# Altium integrated library Actel MX.IntLib: 334 symbols (part 11 of 20)
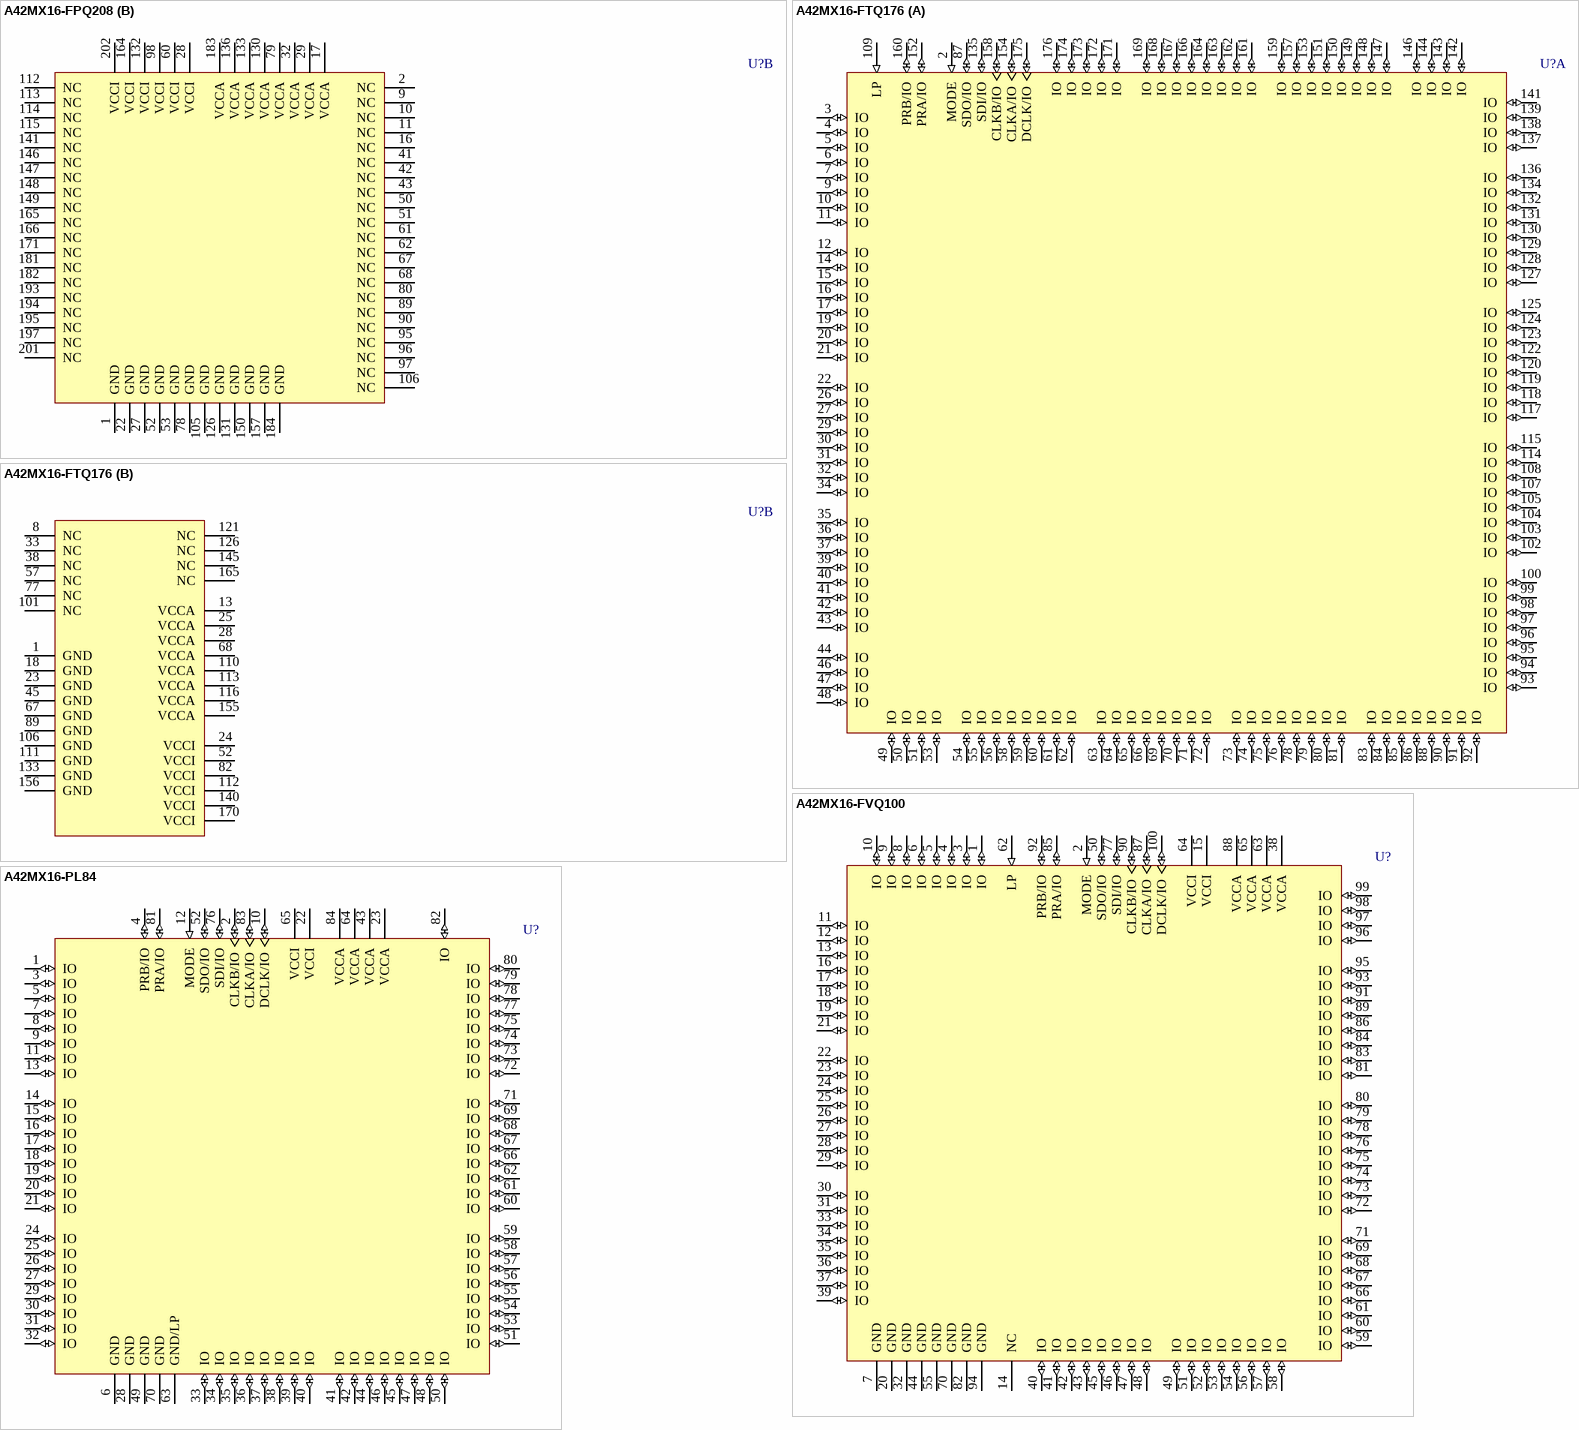
[diagram p142: symbols A42MX16-FPQ208 to A42MX16-PL84]

## A42MX16-FTQ176
designator U?
A42MX16 FPGA, 140 User IOs, 176-Pin TQFP, Speed Grade F, Commercial Grade; DatasheetVersion: v6.1, Apr-2009; PackageVersion: ver11.2, Nov-2009; PackageReference: TQ176; PackageDescription: 176-Pin Plastic Quad Flat Pack (TQ176); Code_JEDEC: MS-026-BCA; ComponentLink1Description: Manufacturer URL; ComponentLink1URL: http://www.actel.com/; ComponentLink2Description: MX Datasheet; ComponentLink2URL: http://www.actel.com/documents/MX_DS.pdf; ComponentLink3Description: Package Mechanical Drawings; ComponentLink3URL: http://www.actel.com/documents/PckgMechDrwngs.pdf; ComponentLink4Description: MX Documents; ComponentLink4URL: http://www.actel.com/products/mx/docs.aspx
footprint TQ176_N (Thin QFP, 176-Leads, Body 24x24mm, Pitch 0.5mm, IPC Medium Density)
footprint TQ176_L (Thin QFP, 176-Leads, Body 24x24mm, Pitch 0.5mm, IPC High Density)
footprint TQ176_M (Thin QFP, 176-Leads, Body 24x24mm, Pitch 0.5mm, IPC Low Density)
part A pins: 2 MODE (in), 3 IO (io), 4 IO (io), 5 IO (io), 6 IO (io), 7 IO (io), 9 IO (io), 10 IO (io), 11 IO (io), 12 IO (io), 14 IO (io), 15 IO (io), 16 IO (io), 17 IO (io), 19 IO (io), 20 IO (io), 21 IO (io), 22 IO (io), 26 IO (io), 27 IO (io), 29 IO (io), 30 IO (io), 31 IO (io), 32 IO (io), 34 IO (io), 35 IO (io), 36 IO (io), 37 IO (io), 39 IO (io), 40 IO (io), 41 IO (io), 42 IO (io), 43 IO (io), 44 IO (io), 46 IO (io), 47 IO (io), 48 IO (io), 49 IO (io), 50 IO (io), 51 IO (io), 53 IO (io), 54 IO (io), 55 IO (io), 56 IO (io), 58 IO (io), 59 IO (io), 60 IO (io), 61 IO (io), 62 IO (io), 63 IO (io), 64 IO (io), 65 IO (io), 66 IO (io), 69 IO (io), 70 IO (io), 71 IO (io), 72 IO (io), 73 IO (io), 74 IO (io), 75 IO (io), 76 IO (io), 78 IO (io), 79 IO (io), 80 IO (io), 81 IO (io), 83 IO (io), 84 IO (io), 85 IO (io), 86 IO (io), 87 SDO/IO (io), 88 IO (io), 90 IO (io), 91 IO (io), 92 IO (io), 93 IO (io), 94 IO (io), 95 IO (io), 96 IO (io), 97 IO (io), 98 IO (io), 99 IO (io), 100 IO (io), 102 IO (io), 103 IO (io), 104 IO (io), 105 IO (io), 107 IO (io), 108 IO (io), 109 LP (in), 114 IO (io), 115 IO (io), 117 IO (io), 118 IO (io), 119 IO (io), 120 IO (io), 122 IO (io), 123 IO (io), 124 IO (io), 125 IO (io), 127 IO (io), 128 IO (io), 129 IO (io), 130 IO (io), 131 IO (io), 132 IO (io), 134 IO (io), 135 SDI/IO (io), 136 IO (io), 137 IO (io), 138 IO (io), 139 IO (io), 141 IO (io), 142 IO (io), 143 IO (io), 144 IO (io), 146 IO (io), 147 IO (io), 148 IO (io), 149 IO (io), 150 IO (io), 151 IO (io), 152 PRA/IO (io), 153 IO (io), 154 CLKA/IO (io), 157 IO (io), 158 CLKB/IO (io), 159 IO (io), 160 PRB/IO (io), 161 IO (io), 162 IO (io), 163 IO (io), 164 IO (io), 166 IO (io), 167 IO (io), 168 IO (io), 169 IO (io), 171 IO (io), 172 IO (io), 173 IO (io), 174 IO (io), 175 DCLK/IO (io), 176 IO (io)
part B pins: 1 GND (power), 8 NC, 13 VCCA (power), 18 GND (power), 23 GND (power), 24 VCCI (power), 25 VCCA (power), 28 VCCA (power), 33 NC, 38 NC, 45 GND (power), 52 VCCI (power), 57 NC, 67 GND (power), 68 VCCA (power), 77 NC, 82 VCCI (power), 89 GND (power), 101 NC, 106 GND (power), 110 VCCA (power), 111 GND (power), 112 VCCI (power), 113 VCCA (power), 116 VCCA (power), 121 NC, 126 NC, 133 GND (power), 140 VCCI (power), 145 NC, 155 VCCA (power), 156 GND (power), 165 NC, 170 VCCI (power)

## A42MX16-FVQ100
designator U?
A42MX16 FPGA, 83 User IOs, 100-Pin VQFP, Speed Grade F, Commercial Grade; DatasheetVersion: v6.1, Apr-2009; PackageVersion: rev40, Jun-2011; PackageReference: VQ100; PackageDescription: 100-Pin Plastic Quad Flat Pack (VQ100); Code_JEDEC: MS-026-AED; ComponentLink1Description: Manufacturer URL; ComponentLink1URL: http://www.actel.com/; ComponentLink2Description: MX Datasheet; ComponentLink2URL: http://www.actel.com/documents/MX_DS.pdf; ComponentLink3Description: Package Mechanical Drawings; ComponentLink3URL: http://www.actel.com/documents/PckgMechDrwngs.pdf; ComponentLink4Description: MX Documents; ComponentLink4URL: http://www.actel.com/products/mx/docs.aspx
footprint VQ100_N (Thin QFP, 100-Leads, Body 14x14mm, Pitch 0.5mm, IPC Medium Density)
footprint VQ100_L (Thin QFP, 100-Leads, Body 14x14mm, Pitch 0.5mm, IPC High Density)
footprint VQ100_M (Thin QFP, 100-Leads, Body 14x14mm, Pitch 0.5mm, IPC Low Density)
pins: 1 IO (io), 2 MODE (in), 3 IO (io), 4 IO (io), 5 IO (io), 6 IO (io), 7 GND (power), 8 IO (io), 9 IO (io), 10 IO (io), 11 IO (io), 12 IO (io), 13 IO (io), 14 NC, 15 VCCI (power), 16 IO (io), 17 IO (io), 18 IO (io), 19 IO (io), 20 GND (power), 21 IO (io), 22 IO (io), 23 IO (io), 24 IO (io), 25 IO (io), 26 IO (io), 27 IO (io), 28 IO (io), 29 IO (io), 30 IO (io), 31 IO (io), 32 GND (power), 33 IO (io), 34 IO (io), 35 IO (io), 36 IO (io), 37 IO (io), 38 VCCA (power), 39 IO (io), 40 IO (io), 41 IO (io), 42 IO (io), 43 IO (io), 44 GND (power), 45 IO (io), 46 IO (io), 47 IO (io), 48 IO (io), 49 IO (io), 50 SDO/IO (io), 51 IO (io), 52 IO (io), 53 IO (io), 54 IO (io), 55 GND (power), 56 IO (io), 57 IO (io), 58 IO (io), 59 IO (io), 60 IO (io), 61 IO (io), 62 LP (in), 63 VCCA (power), 64 VCCI (power), 65 VCCA (power), 66 IO (io), 67 IO (io), 68 IO (io), 69 IO (io), 70 GND (power), 71 IO (io), 72 IO (io), 73 IO (io), 74 IO (io), 75 IO (io), 76 IO (io), 77 SDI/IO (io), 78 IO (io), 79 IO (io), 80 IO (io), 81 IO (io), 82 GND (power), 83 IO (io), 84 IO (io), 85 PRA/IO (io), 86 IO (io), 87 CLKA/IO (io), 88 VCCA (power), 89 IO (io), 90 CLKB/IO (io), 91 IO (io), 92 PRB/IO (io), 93 IO (io), 94 GND (power), 95 IO (io), 96 IO (io), 97 IO (io), 98 IO (io), 99 IO (io), 100 DCLK/IO (io)

## A42MX16-PL84
designator U?
A42MX16 FPGA, 72 User IOs, 84-Pin PLCC, Speed Grade Standard, Commercial Grade; DatasheetVersion: v6.1, Apr-2009; PackageVersion: ver11.2, Nov-2009; PackageReference: PL84; PackageDescription: 84-Pin Plastic Leaded Chip Carrier (PL84); Code_JEDEC: MS-018-AF; Code_IPC: PLCC-84; ComponentLink1Description: Manufacturer URL; ComponentLink1URL: http://www.actel.com/; ComponentLink2Description: MX Datasheet; ComponentLink2URL: http://www.actel.com/documents/MX_DS.pdf; ComponentLink3Description: Package Mechanical Drawings; ComponentLink3URL: http://www.actel.com/documents/PckgMechDrwngs.pdf; ComponentLink4Description: MX Documents; ComponentLink4URL: http://www.actel.com/products/mx/docs.aspx
footprint PL84_N (Leaded Chip Carrier, 84-Leads, Body 29.3x29.3mm, Pitch 1.27mm, IPC Medium Density)
footprint PL84_L (Leaded Chip Carrier, 84-Leads, Body 29.3x29.3mm, Pitch 1.27mm, IPC High Density)
footprint PL84_M (Leaded Chip Carrier, 84-Leads, Body 29.3x29.3mm, Pitch 1.27mm, IPC Low Density)
pins: 1 IO (io), 2 CLKB/IO (io), 3 IO (io), 4 PRB/IO (io), 5 IO (io), 6 GND (power), 7 IO (io), 8 IO (io), 9 IO (io), 10 DCLK/IO (io), 11 IO (io), 12 MODE (in), 13 IO (io), 14 IO (io), 15 IO (io), 16 IO (io), 17 IO (io), 18 IO (io), 19 IO (io), 20 IO (io), 21 IO (io), 22 VCCI (power), 23 VCCA (power), 24 IO (io), 25 IO (io), 26 IO (io), 27 IO (io), 28 GND (power), 29 IO (io), 30 IO (io), 31 IO (io), 32 IO (io), 33 IO (io), 34 IO (io), 35 IO (io), 36 IO (io), 37 IO (io), 38 IO (io), 39 IO (io), 40 IO (io), 41 IO (io), 42 IO (io), 43 VCCA (power), 44 IO (io), 45 IO (io), 46 IO (io), 47 IO (io), 48 IO (io), 49 GND (power), 50 IO (io), 51 IO (io), 52 SDO/IO (io), 53 IO (io), 54 IO (io), 55 IO (io), 56 IO (io), 57 IO (io), 58 IO (io), 59 IO (io), 60 IO (io), 61 IO (io), 62 IO (io), 63 GND/LP (power), 64 VCCA (power), 65 VCCI (power), 66 IO (io), 67 IO (io), 68 IO (io), 69 IO (io), 70 GND (power), 71 IO (io), 72 IO (io), 73 IO (io), 74 IO (io), 75 IO (io), 76 SDI/IO (io), 77 IO (io), 78 IO (io), 79 IO (io), 80 IO (io), 81 PRA/IO (io), 82 IO (io), 83 CLKA/IO (io), 84 VCCA (power)

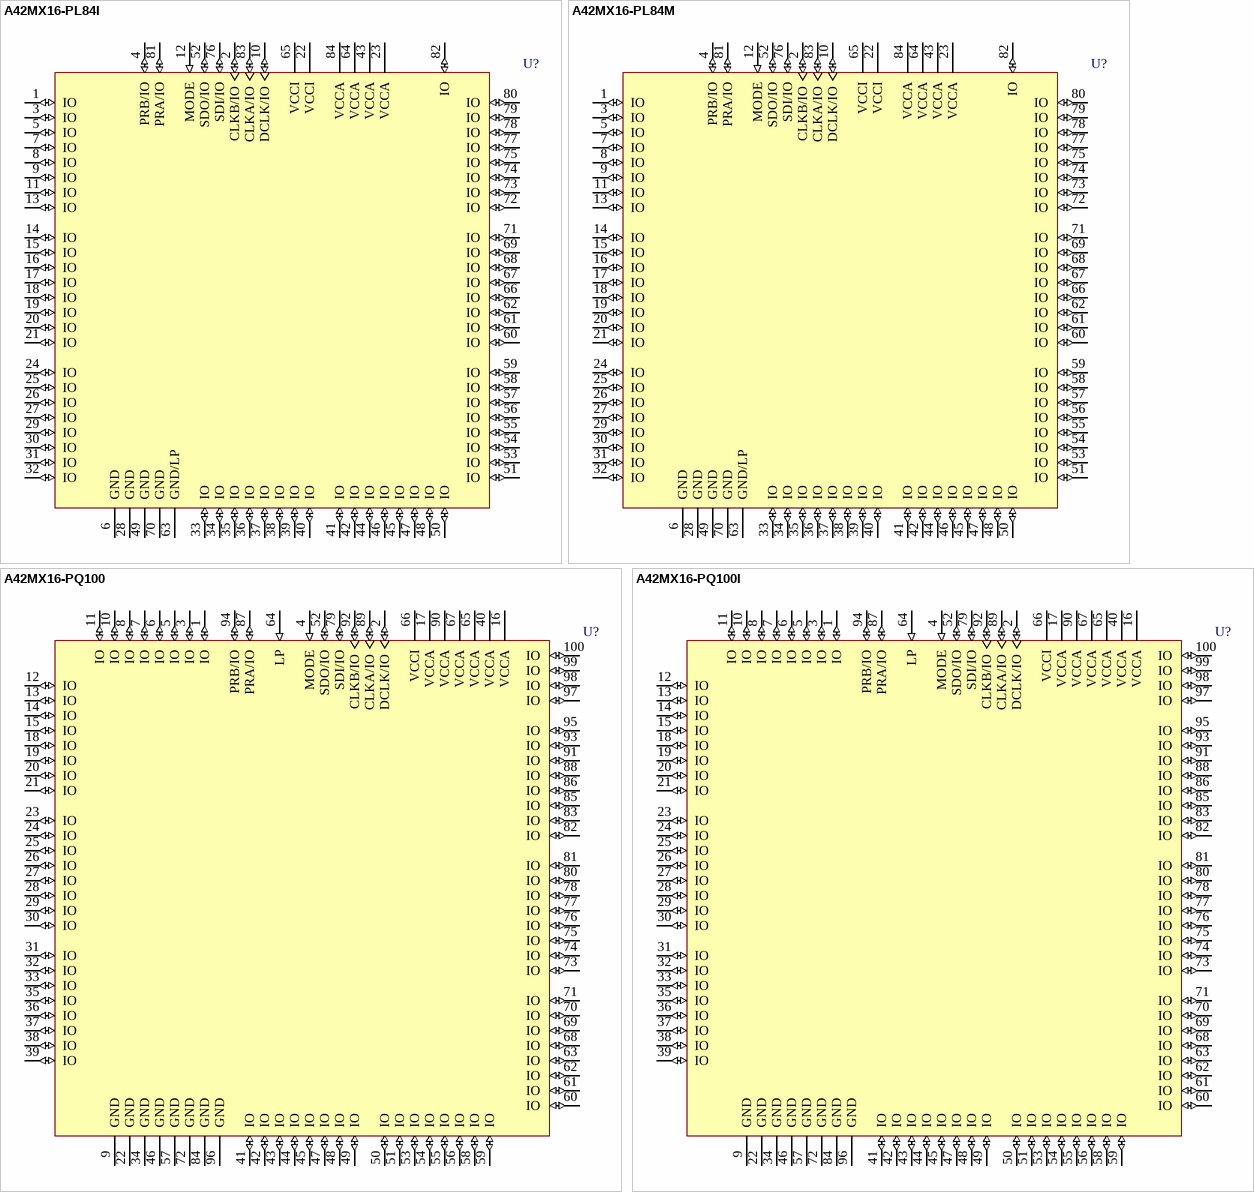
[diagram p53: symbols A42MX16-PL84I to A42MX16-PQ100I]

## A42MX16-PL84I
designator U?
A42MX16 FPGA, 72 User IOs, 84-Pin PLCC, Speed Grade Standard, Industrial Grade; DatasheetVersion: v6.1, Apr-2009; PackageVersion: ver11.2, Nov-2009; PackageReference: PL84; PackageDescription: 84-Pin Plastic Leaded Chip Carrier (PL84); Code_JEDEC: MS-018-AF; Code_IPC: PLCC-84; ComponentLink1Description: Manufacturer URL; ComponentLink1URL: http://www.actel.com/; ComponentLink2Description: MX Datasheet; ComponentLink2URL: http://www.actel.com/documents/MX_DS.pdf; ComponentLink3Description: Package Mechanical Drawings; ComponentLink3URL: http://www.actel.com/documents/PckgMechDrwngs.pdf; ComponentLink4Description: MX Documents; ComponentLink4URL: http://www.actel.com/products/mx/docs.aspx
footprint PL84_N (Leaded Chip Carrier, 84-Leads, Body 29.3x29.3mm, Pitch 1.27mm, IPC Medium Density)
footprint PL84_L (Leaded Chip Carrier, 84-Leads, Body 29.3x29.3mm, Pitch 1.27mm, IPC High Density)
footprint PL84_M (Leaded Chip Carrier, 84-Leads, Body 29.3x29.3mm, Pitch 1.27mm, IPC Low Density)
pins: 1 IO (io), 2 CLKB/IO (io), 3 IO (io), 4 PRB/IO (io), 5 IO (io), 6 GND (power), 7 IO (io), 8 IO (io), 9 IO (io), 10 DCLK/IO (io), 11 IO (io), 12 MODE (in), 13 IO (io), 14 IO (io), 15 IO (io), 16 IO (io), 17 IO (io), 18 IO (io), 19 IO (io), 20 IO (io), 21 IO (io), 22 VCCI (power), 23 VCCA (power), 24 IO (io), 25 IO (io), 26 IO (io), 27 IO (io), 28 GND (power), 29 IO (io), 30 IO (io), 31 IO (io), 32 IO (io), 33 IO (io), 34 IO (io), 35 IO (io), 36 IO (io), 37 IO (io), 38 IO (io), 39 IO (io), 40 IO (io), 41 IO (io), 42 IO (io), 43 VCCA (power), 44 IO (io), 45 IO (io), 46 IO (io), 47 IO (io), 48 IO (io), 49 GND (power), 50 IO (io), 51 IO (io), 52 SDO/IO (io), 53 IO (io), 54 IO (io), 55 IO (io), 56 IO (io), 57 IO (io), 58 IO (io), 59 IO (io), 60 IO (io), 61 IO (io), 62 IO (io), 63 GND/LP (power), 64 VCCA (power), 65 VCCI (power), 66 IO (io), 67 IO (io), 68 IO (io), 69 IO (io), 70 GND (power), 71 IO (io), 72 IO (io), 73 IO (io), 74 IO (io), 75 IO (io), 76 SDI/IO (io), 77 IO (io), 78 IO (io), 79 IO (io), 80 IO (io), 81 PRA/IO (io), 82 IO (io), 83 CLKA/IO (io), 84 VCCA (power)

## A42MX16-PL84M
designator U?
A42MX16 FPGA, 72 User IOs, 84-Pin PLCC, Speed Grade Standard, Military Grade; DatasheetVersion: v6.1, Apr-2009; PackageVersion: ver11.2, Nov-2009; PackageReference: PL84; PackageDescription: 84-Pin Plastic Leaded Chip Carrier (PL84); Code_JEDEC: MS-018-AF; Code_IPC: PLCC-84; ComponentLink1Description: Manufacturer URL; ComponentLink1URL: http://www.actel.com/; ComponentLink2Description: MX Datasheet; ComponentLink2URL: http://www.actel.com/documents/MX_DS.pdf; ComponentLink3Description: Package Mechanical Drawings; ComponentLink3URL: http://www.actel.com/documents/PckgMechDrwngs.pdf; ComponentLink4Description: MX Documents; ComponentLink4URL: http://www.actel.com/products/mx/docs.aspx
footprint PL84_N (Leaded Chip Carrier, 84-Leads, Body 29.3x29.3mm, Pitch 1.27mm, IPC Medium Density)
footprint PL84_L (Leaded Chip Carrier, 84-Leads, Body 29.3x29.3mm, Pitch 1.27mm, IPC High Density)
footprint PL84_M (Leaded Chip Carrier, 84-Leads, Body 29.3x29.3mm, Pitch 1.27mm, IPC Low Density)
pins: 1 IO (io), 2 CLKB/IO (io), 3 IO (io), 4 PRB/IO (io), 5 IO (io), 6 GND (power), 7 IO (io), 8 IO (io), 9 IO (io), 10 DCLK/IO (io), 11 IO (io), 12 MODE (in), 13 IO (io), 14 IO (io), 15 IO (io), 16 IO (io), 17 IO (io), 18 IO (io), 19 IO (io), 20 IO (io), 21 IO (io), 22 VCCI (power), 23 VCCA (power), 24 IO (io), 25 IO (io), 26 IO (io), 27 IO (io), 28 GND (power), 29 IO (io), 30 IO (io), 31 IO (io), 32 IO (io), 33 IO (io), 34 IO (io), 35 IO (io), 36 IO (io), 37 IO (io), 38 IO (io), 39 IO (io), 40 IO (io), 41 IO (io), 42 IO (io), 43 VCCA (power), 44 IO (io), 45 IO (io), 46 IO (io), 47 IO (io), 48 IO (io), 49 GND (power), 50 IO (io), 51 IO (io), 52 SDO/IO (io), 53 IO (io), 54 IO (io), 55 IO (io), 56 IO (io), 57 IO (io), 58 IO (io), 59 IO (io), 60 IO (io), 61 IO (io), 62 IO (io), 63 GND/LP (power), 64 VCCA (power), 65 VCCI (power), 66 IO (io), 67 IO (io), 68 IO (io), 69 IO (io), 70 GND (power), 71 IO (io), 72 IO (io), 73 IO (io), 74 IO (io), 75 IO (io), 76 SDI/IO (io), 77 IO (io), 78 IO (io), 79 IO (io), 80 IO (io), 81 PRA/IO (io), 82 IO (io), 83 CLKA/IO (io), 84 VCCA (power)

## A42MX16-PQ100
designator U?
A42MX16 FPGA, 83 User IOs, 100-Pin PQFP, Speed Grade Standard, Commercial Grade; DatasheetVersion: v6.1, Apr-2009; PackageVersion: ver11.2, Nov-2009; PackageReference: PQ100; PackageDescription: 100-Pin Plastic Quad Flat Pack Rectangular Package (PQ100); Code_JEDEC: MS-022-GC-1; Code_IPC: QFP65P1720X2320-100; ComponentLink1Description: Manufacturer URL; ComponentLink1URL: http://www.actel.com/; ComponentLink2Description: MX Datasheet; ComponentLink2URL: http://www.actel.com/documents/MX_DS.pdf; ComponentLink3Description: Package Mechanical Drawings; ComponentLink3URL: http://www.actel.com/documents/PckgMechDrwngs.pdf; ComponentLink4Description: MX Documents; ComponentLink4URL: http://www.actel.com/products/mx/docs.aspx
footprint PQ100_N (QFP, 100-Leads, Body 20x14mm, Pitch 0.65mm, IPC Medium Density)
footprint PQ100_L (QFP, 100-Leads, Body 20x14mm, Pitch 0.65mm, IPC High Density)
footprint PQ100_M (QFP, 100-Leads, Body 20x14mm, Pitch 0.65mm, IPC Low Density)
pins: 1 IO (io), 2 DCLK/IO (io), 3 IO (io), 4 MODE (in), 5 IO (io), 6 IO (io), 7 IO (io), 8 IO (io), 9 GND (power), 10 IO (io), 11 IO (io), 12 IO (io), 13 IO (io), 14 IO (io), 15 IO (io), 16 VCCA (power), 17 VCCA (power), 18 IO (io), 19 IO (io), 20 IO (io), 21 IO (io), 22 GND (power), 23 IO (io), 24 IO (io), 25 IO (io), 26 IO (io), 27 IO (io), 28 IO (io), 29 IO (io), 30 IO (io), 31 IO (io), 32 IO (io), 33 IO (io), 34 GND (power), 35 IO (io), 36 IO (io), 37 IO (io), 38 IO (io), 39 IO (io), 40 VCCA (power), 41 IO (io), 42 IO (io), 43 IO (io), 44 IO (io), 45 IO (io), 46 GND (power), 47 IO (io), 48 IO (io), 49 IO (io), 50 IO (io), 51 IO (io), 52 SDO/IO (io), 53 IO (io), 54 IO (io), 55 IO (io), 56 IO (io), 57 GND (power), 58 IO (io), 59 IO (io), 60 IO (io), 61 IO (io), 62 IO (io), 63 IO (io), 64 LP (in) "Datasheet V6.0", 65 VCCA (power), 66 VCCI (power), 67 VCCA (power), 68 IO (io), 69 IO (io), 70 IO (io), 71 IO (io), 72 GND (power), 73 IO (io), 74 IO (io), 75 IO (io), 76 IO (io), 77 IO (io), 78 IO (io), 79 SDI/IO (io), 80 IO (io), 81 IO (io), 82 IO (io), 83 IO (io), 84 GND (power), 85 IO (io), 86 IO (io), 87 PRA/IO (io), 88 IO (io), 89 CLKA/IO (io), 90 VCCA (power), 91 IO (io), 92 CLKB/IO (io), 93 IO (io), 94 PRB/IO (io), 95 IO (io), 96 GND (power), 97 IO (io), 98 IO (io), 99 IO (io), 100 IO (io)

## A42MX16-PQ100I
designator U?
A42MX16 FPGA, 83 User IOs, 100-Pin PQFP, Speed Grade Standard, Industrial Grade; DatasheetVersion: v6.1, Apr-2009; PackageVersion: ver11.2, Nov-2009; PackageReference: PQ100; PackageDescription: 100-Pin Plastic Quad Flat Pack Rectangular Package (PQ100); Code_JEDEC: MS-022-GC-1; Code_IPC: QFP65P1720X2320-100; ComponentLink1Description: Manufacturer URL; ComponentLink1URL: http://www.actel.com/; ComponentLink2Description: MX Datasheet; ComponentLink2URL: http://www.actel.com/documents/MX_DS.pdf; ComponentLink3Description: Package Mechanical Drawings; ComponentLink3URL: http://www.actel.com/documents/PckgMechDrwngs.pdf; ComponentLink4Description: MX Documents; ComponentLink4URL: http://www.actel.com/products/mx/docs.aspx
footprint PQ100_N (QFP, 100-Leads, Body 20x14mm, Pitch 0.65mm, IPC Medium Density)
footprint PQ100_L (QFP, 100-Leads, Body 20x14mm, Pitch 0.65mm, IPC High Density)
footprint PQ100_M (QFP, 100-Leads, Body 20x14mm, Pitch 0.65mm, IPC Low Density)
pins: 1 IO (io), 2 DCLK/IO (io), 3 IO (io), 4 MODE (in), 5 IO (io), 6 IO (io), 7 IO (io), 8 IO (io), 9 GND (power), 10 IO (io), 11 IO (io), 12 IO (io), 13 IO (io), 14 IO (io), 15 IO (io), 16 VCCA (power), 17 VCCA (power), 18 IO (io), 19 IO (io), 20 IO (io), 21 IO (io), 22 GND (power), 23 IO (io), 24 IO (io), 25 IO (io), 26 IO (io), 27 IO (io), 28 IO (io), 29 IO (io), 30 IO (io), 31 IO (io), 32 IO (io), 33 IO (io), 34 GND (power), 35 IO (io), 36 IO (io), 37 IO (io), 38 IO (io), 39 IO (io), 40 VCCA (power), 41 IO (io), 42 IO (io), 43 IO (io), 44 IO (io), 45 IO (io), 46 GND (power), 47 IO (io), 48 IO (io), 49 IO (io), 50 IO (io), 51 IO (io), 52 SDO/IO (io), 53 IO (io), 54 IO (io), 55 IO (io), 56 IO (io), 57 GND (power), 58 IO (io), 59 IO (io), 60 IO (io), 61 IO (io), 62 IO (io), 63 IO (io), 64 LP (in) "Datasheet V6.0", 65 VCCA (power), 66 VCCI (power), 67 VCCA (power), 68 IO (io), 69 IO (io), 70 IO (io), 71 IO (io), 72 GND (power), 73 IO (io), 74 IO (io), 75 IO (io), 76 IO (io), 77 IO (io), 78 IO (io), 79 SDI/IO (io), 80 IO (io), 81 IO (io), 82 IO (io), 83 IO (io), 84 GND (power), 85 IO (io), 86 IO (io), 87 PRA/IO (io), 88 IO (io), 89 CLKA/IO (io), 90 VCCA (power), 91 IO (io), 92 CLKB/IO (io), 93 IO (io), 94 PRB/IO (io), 95 IO (io), 96 GND (power), 97 IO (io), 98 IO (io), 99 IO (io), 100 IO (io)

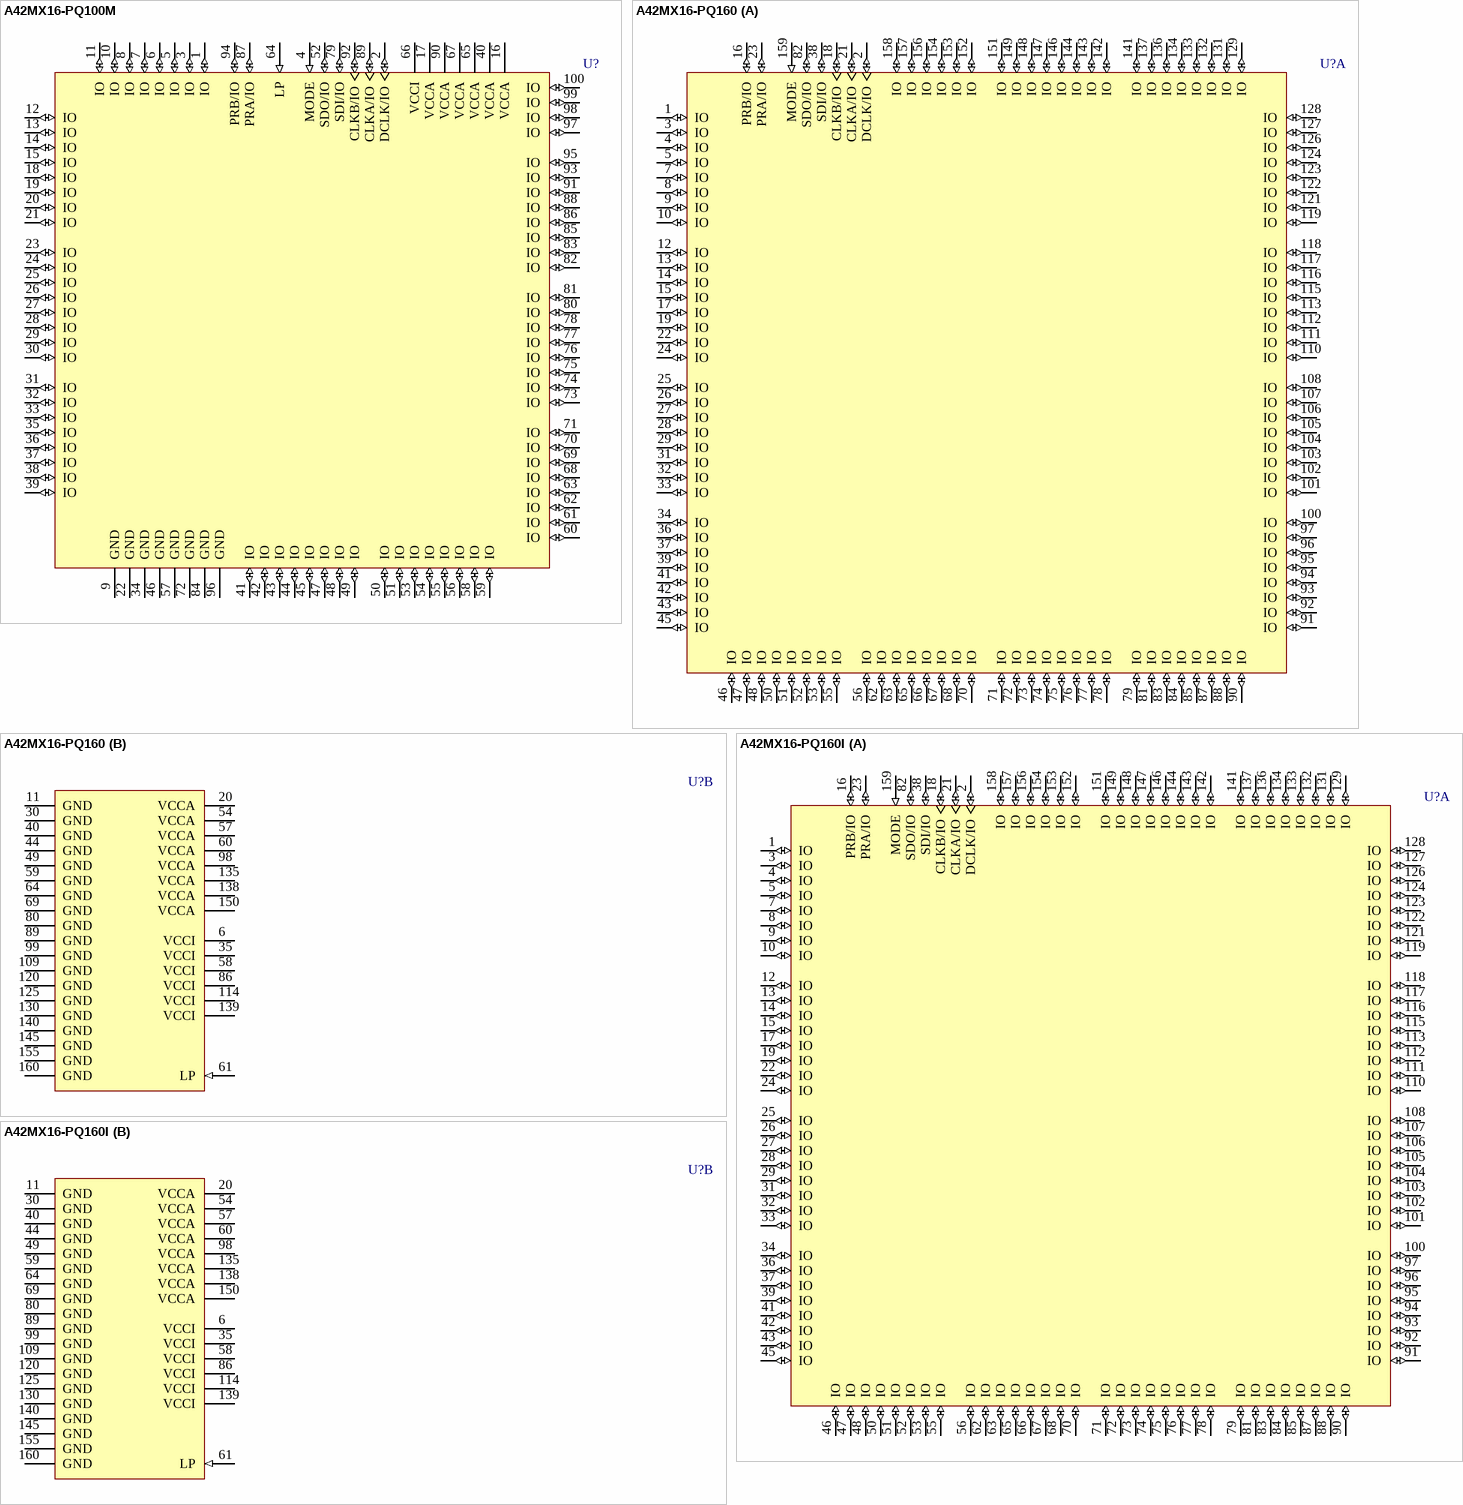
[diagram p54: symbols A42MX16-PQ100M to A42MX16-PQ160I]

## A42MX16-PQ100M
designator U?
A42MX16 FPGA, 83 User IOs, 100-Pin PQFP, Speed Grade Standard, Military Grade; DatasheetVersion: v6.1, Apr-2009; PackageVersion: ver11.2, Nov-2009; PackageReference: PQ100; PackageDescription: 100-Pin Plastic Quad Flat Pack Rectangular Package (PQ100); Code_JEDEC: MS-022-GC-1; Code_IPC: QFP65P1720X2320-100; ComponentLink1Description: Manufacturer URL; ComponentLink1URL: http://www.actel.com/; ComponentLink2Description: MX Datasheet; ComponentLink2URL: http://www.actel.com/documents/MX_DS.pdf; ComponentLink3Description: Package Mechanical Drawings; ComponentLink3URL: http://www.actel.com/documents/PckgMechDrwngs.pdf; ComponentLink4Description: MX Documents; ComponentLink4URL: http://www.actel.com/products/mx/docs.aspx
footprint PQ100_N (QFP, 100-Leads, Body 20x14mm, Pitch 0.65mm, IPC Medium Density)
footprint PQ100_L (QFP, 100-Leads, Body 20x14mm, Pitch 0.65mm, IPC High Density)
footprint PQ100_M (QFP, 100-Leads, Body 20x14mm, Pitch 0.65mm, IPC Low Density)
pins: 1 IO (io), 2 DCLK/IO (io), 3 IO (io), 4 MODE (in), 5 IO (io), 6 IO (io), 7 IO (io), 8 IO (io), 9 GND (power), 10 IO (io), 11 IO (io), 12 IO (io), 13 IO (io), 14 IO (io), 15 IO (io), 16 VCCA (power), 17 VCCA (power), 18 IO (io), 19 IO (io), 20 IO (io), 21 IO (io), 22 GND (power), 23 IO (io), 24 IO (io), 25 IO (io), 26 IO (io), 27 IO (io), 28 IO (io), 29 IO (io), 30 IO (io), 31 IO (io), 32 IO (io), 33 IO (io), 34 GND (power), 35 IO (io), 36 IO (io), 37 IO (io), 38 IO (io), 39 IO (io), 40 VCCA (power), 41 IO (io), 42 IO (io), 43 IO (io), 44 IO (io), 45 IO (io), 46 GND (power), 47 IO (io), 48 IO (io), 49 IO (io), 50 IO (io), 51 IO (io), 52 SDO/IO (io), 53 IO (io), 54 IO (io), 55 IO (io), 56 IO (io), 57 GND (power), 58 IO (io), 59 IO (io), 60 IO (io), 61 IO (io), 62 IO (io), 63 IO (io), 64 LP (in) "Datasheet V6.0", 65 VCCA (power), 66 VCCI (power), 67 VCCA (power), 68 IO (io), 69 IO (io), 70 IO (io), 71 IO (io), 72 GND (power), 73 IO (io), 74 IO (io), 75 IO (io), 76 IO (io), 77 IO (io), 78 IO (io), 79 SDI/IO (io), 80 IO (io), 81 IO (io), 82 IO (io), 83 IO (io), 84 GND (power), 85 IO (io), 86 IO (io), 87 PRA/IO (io), 88 IO (io), 89 CLKA/IO (io), 90 VCCA (power), 91 IO (io), 92 CLKB/IO (io), 93 IO (io), 94 PRB/IO (io), 95 IO (io), 96 GND (power), 97 IO (io), 98 IO (io), 99 IO (io), 100 IO (io)

## A42MX16-PQ160
designator U?
A42MX16 FPGA, 125 User IOs, 160-Pin PQFP, Speed Grade Standard, Commercial Grade; DatasheetVersion: v6.1, Apr-2009; PackageVersion: ver11.2, Nov-2009; PackageReference: PQ160; PackageDescription: 160-Pin Plastic Quad Flat Pack (PQ160); Code_JEDEC: MS-022-DD-1; Code_IPC: QFP65P3120X3120-160; ComponentLink1Description: Manufacturer URL; ComponentLink1URL: http://www.actel.com/; ComponentLink2Description: MX Datasheet; ComponentLink2URL: http://www.actel.com/documents/MX_DS.pdf; ComponentLink3Description: Package Mechanical Drawings; ComponentLink3URL: http://www.actel.com/documents/PckgMechDrwngs.pdf; ComponentLink4Description: MX Documents; ComponentLink4URL: http://www.actel.com/products/mx/docs.aspx
footprint PQ160_N (QFP, 160-Leads, Body 28x28mm, Pitch 0.65mm, IPC Medium Density)
footprint PQ160_L (QFP, 160-Leads, Body 28x28mm, Pitch 0.65mm, IPC High Density)
footprint PQ160_M (QFP, 160-Leads, Body 28x28mm, Pitch 0.65mm, IPC Low Density)
part A pins: 1 IO (io), 2 DCLK/IO (io), 3 IO (io), 4 IO (io), 5 IO (io), 7 IO (io), 8 IO (io), 9 IO (io), 10 IO (io), 12 IO (io), 13 IO (io), 14 IO (io), 15 IO (io), 16 PRB/IO (io), 17 IO (io), 18 CLKB/IO (io), 19 IO (io), 21 CLKA/IO (io), 22 IO (io), 23 PRA/IO (io), 24 IO (io), 25 IO (io), 26 IO (io), 27 IO (io), 28 IO (io), 29 IO (io), 31 IO (io), 32 IO (io), 33 IO (io), 34 IO (io), 36 IO (io), 37 IO (io), 38 SDI/IO (io), 39 IO (io), 41 IO (io), 42 IO (io), 43 IO (io), 45 IO (io), 46 IO (io), 47 IO (io), 48 IO (io), 50 IO (io), 51 IO (io), 52 IO (io), 53 IO (io), 55 IO (io), 56 IO (io), 62 IO (io), 63 IO (io), 65 IO (io), 66 IO (io), 67 IO (io), 68 IO (io), 70 IO (io), 71 IO (io), 72 IO (io), 73 IO (io), 74 IO (io), 75 IO (io), 76 IO (io), 77 IO (io), 78 IO (io), 79 IO (io), 81 IO (io), 82 SDO/IO (io), 83 IO (io), 84 IO (io), 85 IO (io), 87 IO (io), 88 IO (io), 90 IO (io), 91 IO (io), 92 IO (io), 93 IO (io), 94 IO (io), 95 IO (io), 96 IO (io), 97 IO (io), 100 IO (io), 101 IO (io), 102 IO (io), 103 IO (io), 104 IO (io), 105 IO (io), 106 IO (io), 107 IO (io), 108 IO (io), 110 IO (io), 111 IO (io), 112 IO (io), 113 IO (io), 115 IO (io), 116 IO (io), 117 IO (io), 118 IO (io), 119 IO (io), 121 IO (io), 122 IO (io), 123 IO (io), 124 IO (io), 126 IO (io), 127 IO (io), 128 IO (io), 129 IO (io), 131 IO (io), 132 IO (io), 133 IO (io), 134 IO (io), 136 IO (io), 137 IO (io), 141 IO (io), 142 IO (io), 143 IO (io), 144 IO (io), 146 IO (io), 147 IO (io), 148 IO (io), 149 IO (io), 151 IO (io), 152 IO (io), 153 IO (io), 154 IO (io), 156 IO (io), 157 IO (io), 158 IO (io), 159 MODE (in)
part B pins: 6 VCCI (power), 11 GND (power), 20 VCCA (power), 30 GND (power), 35 VCCI (power), 40 GND (power), 44 GND (power), 49 GND (power), 54 VCCA (power), 57 VCCA (power), 58 VCCI (power), 59 GND (power), 60 VCCA (power), 61 LP (in), 64 GND (power), 69 GND (power), 80 GND (power), 86 VCCI (power), 89 GND (power), 98 VCCA (power), 99 GND (power), 109 GND (power), 114 VCCI (power), 120 GND (power), 125 GND (power), 130 GND (power), 135 VCCA (power), 138 VCCA (power), 139 VCCI (power), 140 GND (power), 145 GND (power), 150 VCCA (power), 155 GND (power), 160 GND (power)

## A42MX16-PQ160I
designator U?
A42MX16 FPGA, 125 User IOs, 160-Pin PQFP, Speed Grade Standard, Industrial Grade; DatasheetVersion: v6.1, Apr-2009; PackageVersion: ver11.2, Nov-2009; PackageReference: PQ160; PackageDescription: 160-Pin Plastic Quad Flat Pack (PQ160); Code_JEDEC: MS-022-DD-1; Code_IPC: QFP65P3120X3120-160; ComponentLink1Description: Manufacturer URL; ComponentLink1URL: http://www.actel.com/; ComponentLink2Description: MX Datasheet; ComponentLink2URL: http://www.actel.com/documents/MX_DS.pdf; ComponentLink3Description: Package Mechanical Drawings; ComponentLink3URL: http://www.actel.com/documents/PckgMechDrwngs.pdf; ComponentLink4Description: MX Documents; ComponentLink4URL: http://www.actel.com/products/mx/docs.aspx
footprint PQ160_N (QFP, 160-Leads, Body 28x28mm, Pitch 0.65mm, IPC Medium Density)
footprint PQ160_L (QFP, 160-Leads, Body 28x28mm, Pitch 0.65mm, IPC High Density)
footprint PQ160_M (QFP, 160-Leads, Body 28x28mm, Pitch 0.65mm, IPC Low Density)
part A pins: 1 IO (io), 2 DCLK/IO (io), 3 IO (io), 4 IO (io), 5 IO (io), 7 IO (io), 8 IO (io), 9 IO (io), 10 IO (io), 12 IO (io), 13 IO (io), 14 IO (io), 15 IO (io), 16 PRB/IO (io), 17 IO (io), 18 CLKB/IO (io), 19 IO (io), 21 CLKA/IO (io), 22 IO (io), 23 PRA/IO (io), 24 IO (io), 25 IO (io), 26 IO (io), 27 IO (io), 28 IO (io), 29 IO (io), 31 IO (io), 32 IO (io), 33 IO (io), 34 IO (io), 36 IO (io), 37 IO (io), 38 SDI/IO (io), 39 IO (io), 41 IO (io), 42 IO (io), 43 IO (io), 45 IO (io), 46 IO (io), 47 IO (io), 48 IO (io), 50 IO (io), 51 IO (io), 52 IO (io), 53 IO (io), 55 IO (io), 56 IO (io), 62 IO (io), 63 IO (io), 65 IO (io), 66 IO (io), 67 IO (io), 68 IO (io), 70 IO (io), 71 IO (io), 72 IO (io), 73 IO (io), 74 IO (io), 75 IO (io), 76 IO (io), 77 IO (io), 78 IO (io), 79 IO (io), 81 IO (io), 82 SDO/IO (io), 83 IO (io), 84 IO (io), 85 IO (io), 87 IO (io), 88 IO (io), 90 IO (io), 91 IO (io), 92 IO (io), 93 IO (io), 94 IO (io), 95 IO (io), 96 IO (io), 97 IO (io), 100 IO (io), 101 IO (io), 102 IO (io), 103 IO (io), 104 IO (io), 105 IO (io), 106 IO (io), 107 IO (io), 108 IO (io), 110 IO (io), 111 IO (io), 112 IO (io), 113 IO (io), 115 IO (io), 116 IO (io), 117 IO (io), 118 IO (io), 119 IO (io), 121 IO (io), 122 IO (io), 123 IO (io), 124 IO (io), 126 IO (io), 127 IO (io), 128 IO (io), 129 IO (io), 131 IO (io), 132 IO (io), 133 IO (io), 134 IO (io), 136 IO (io), 137 IO (io), 141 IO (io), 142 IO (io), 143 IO (io), 144 IO (io), 146 IO (io), 147 IO (io), 148 IO (io), 149 IO (io), 151 IO (io), 152 IO (io), 153 IO (io), 154 IO (io), 156 IO (io), 157 IO (io), 158 IO (io), 159 MODE (in)
part B pins: 6 VCCI (power), 11 GND (power), 20 VCCA (power), 30 GND (power), 35 VCCI (power), 40 GND (power), 44 GND (power), 49 GND (power), 54 VCCA (power), 57 VCCA (power), 58 VCCI (power), 59 GND (power), 60 VCCA (power), 61 LP (in), 64 GND (power), 69 GND (power), 80 GND (power), 86 VCCI (power), 89 GND (power), 98 VCCA (power), 99 GND (power), 109 GND (power), 114 VCCI (power), 120 GND (power), 125 GND (power), 130 GND (power), 135 VCCA (power), 138 VCCA (power), 139 VCCI (power), 140 GND (power), 145 GND (power), 150 VCCA (power), 155 GND (power), 160 GND (power)

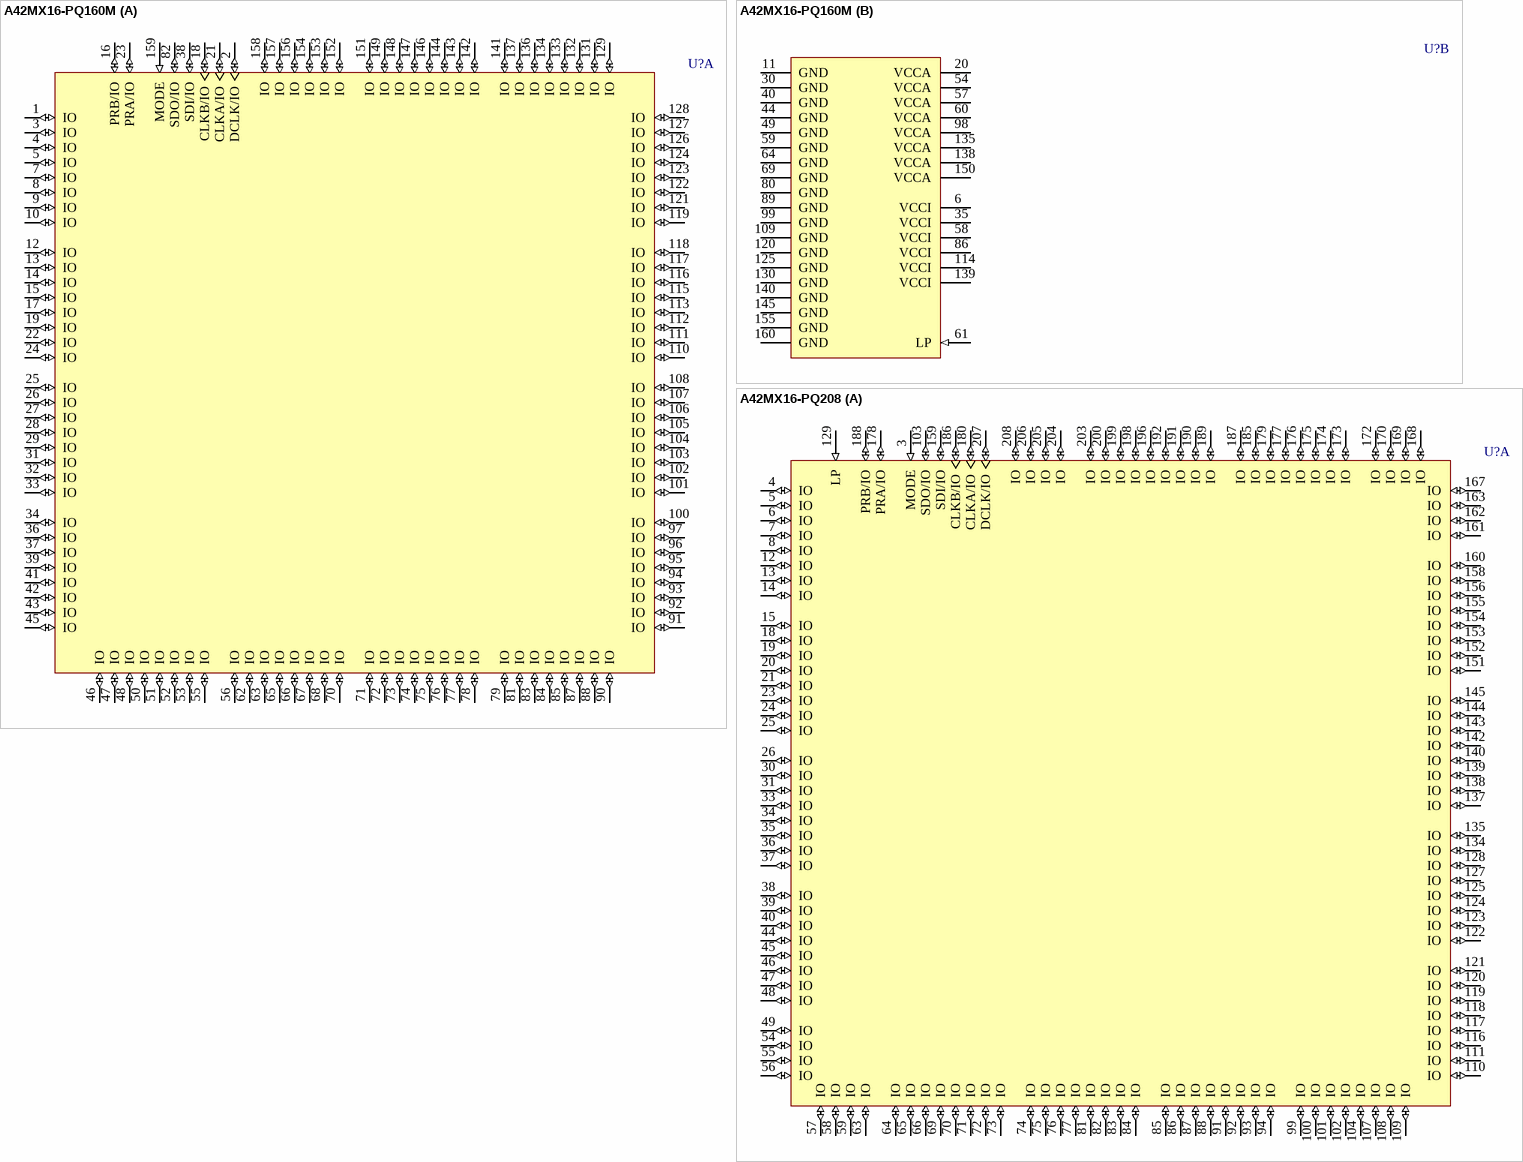
[diagram p55: symbols A42MX16-PQ160M to A42MX16-PQ208]

## A42MX16-PQ160M
designator U?
A42MX16 FPGA, 125 User IOs, 160-Pin PQFP, Speed Grade Standard, Military Grade; DatasheetVersion: v6.1, Apr-2009; PackageVersion: ver11.2, Nov-2009; PackageReference: PQ160; PackageDescription: 160-Pin Plastic Quad Flat Pack (PQ160); Code_JEDEC: MS-022-DD-1; Code_IPC: QFP65P3120X3120-160; ComponentLink1Description: Manufacturer URL; ComponentLink1URL: http://www.actel.com/; ComponentLink2Description: MX Datasheet; ComponentLink2URL: http://www.actel.com/documents/MX_DS.pdf; ComponentLink3Description: Package Mechanical Drawings; ComponentLink3URL: http://www.actel.com/documents/PckgMechDrwngs.pdf; ComponentLink4Description: MX Documents; ComponentLink4URL: http://www.actel.com/products/mx/docs.aspx
footprint PQ160_N (QFP, 160-Leads, Body 28x28mm, Pitch 0.65mm, IPC Medium Density)
footprint PQ160_L (QFP, 160-Leads, Body 28x28mm, Pitch 0.65mm, IPC High Density)
footprint PQ160_M (QFP, 160-Leads, Body 28x28mm, Pitch 0.65mm, IPC Low Density)
part A pins: 1 IO (io), 2 DCLK/IO (io), 3 IO (io), 4 IO (io), 5 IO (io), 7 IO (io), 8 IO (io), 9 IO (io), 10 IO (io), 12 IO (io), 13 IO (io), 14 IO (io), 15 IO (io), 16 PRB/IO (io), 17 IO (io), 18 CLKB/IO (io), 19 IO (io), 21 CLKA/IO (io), 22 IO (io), 23 PRA/IO (io), 24 IO (io), 25 IO (io), 26 IO (io), 27 IO (io), 28 IO (io), 29 IO (io), 31 IO (io), 32 IO (io), 33 IO (io), 34 IO (io), 36 IO (io), 37 IO (io), 38 SDI/IO (io), 39 IO (io), 41 IO (io), 42 IO (io), 43 IO (io), 45 IO (io), 46 IO (io), 47 IO (io), 48 IO (io), 50 IO (io), 51 IO (io), 52 IO (io), 53 IO (io), 55 IO (io), 56 IO (io), 62 IO (io), 63 IO (io), 65 IO (io), 66 IO (io), 67 IO (io), 68 IO (io), 70 IO (io), 71 IO (io), 72 IO (io), 73 IO (io), 74 IO (io), 75 IO (io), 76 IO (io), 77 IO (io), 78 IO (io), 79 IO (io), 81 IO (io), 82 SDO/IO (io), 83 IO (io), 84 IO (io), 85 IO (io), 87 IO (io), 88 IO (io), 90 IO (io), 91 IO (io), 92 IO (io), 93 IO (io), 94 IO (io), 95 IO (io), 96 IO (io), 97 IO (io), 100 IO (io), 101 IO (io), 102 IO (io), 103 IO (io), 104 IO (io), 105 IO (io), 106 IO (io), 107 IO (io), 108 IO (io), 110 IO (io), 111 IO (io), 112 IO (io), 113 IO (io), 115 IO (io), 116 IO (io), 117 IO (io), 118 IO (io), 119 IO (io), 121 IO (io), 122 IO (io), 123 IO (io), 124 IO (io), 126 IO (io), 127 IO (io), 128 IO (io), 129 IO (io), 131 IO (io), 132 IO (io), 133 IO (io), 134 IO (io), 136 IO (io), 137 IO (io), 141 IO (io), 142 IO (io), 143 IO (io), 144 IO (io), 146 IO (io), 147 IO (io), 148 IO (io), 149 IO (io), 151 IO (io), 152 IO (io), 153 IO (io), 154 IO (io), 156 IO (io), 157 IO (io), 158 IO (io), 159 MODE (in)
part B pins: 6 VCCI (power), 11 GND (power), 20 VCCA (power), 30 GND (power), 35 VCCI (power), 40 GND (power), 44 GND (power), 49 GND (power), 54 VCCA (power), 57 VCCA (power), 58 VCCI (power), 59 GND (power), 60 VCCA (power), 61 LP (in), 64 GND (power), 69 GND (power), 80 GND (power), 86 VCCI (power), 89 GND (power), 98 VCCA (power), 99 GND (power), 109 GND (power), 114 VCCI (power), 120 GND (power), 125 GND (power), 130 GND (power), 135 VCCA (power), 138 VCCA (power), 139 VCCI (power), 140 GND (power), 145 GND (power), 150 VCCA (power), 155 GND (power), 160 GND (power)

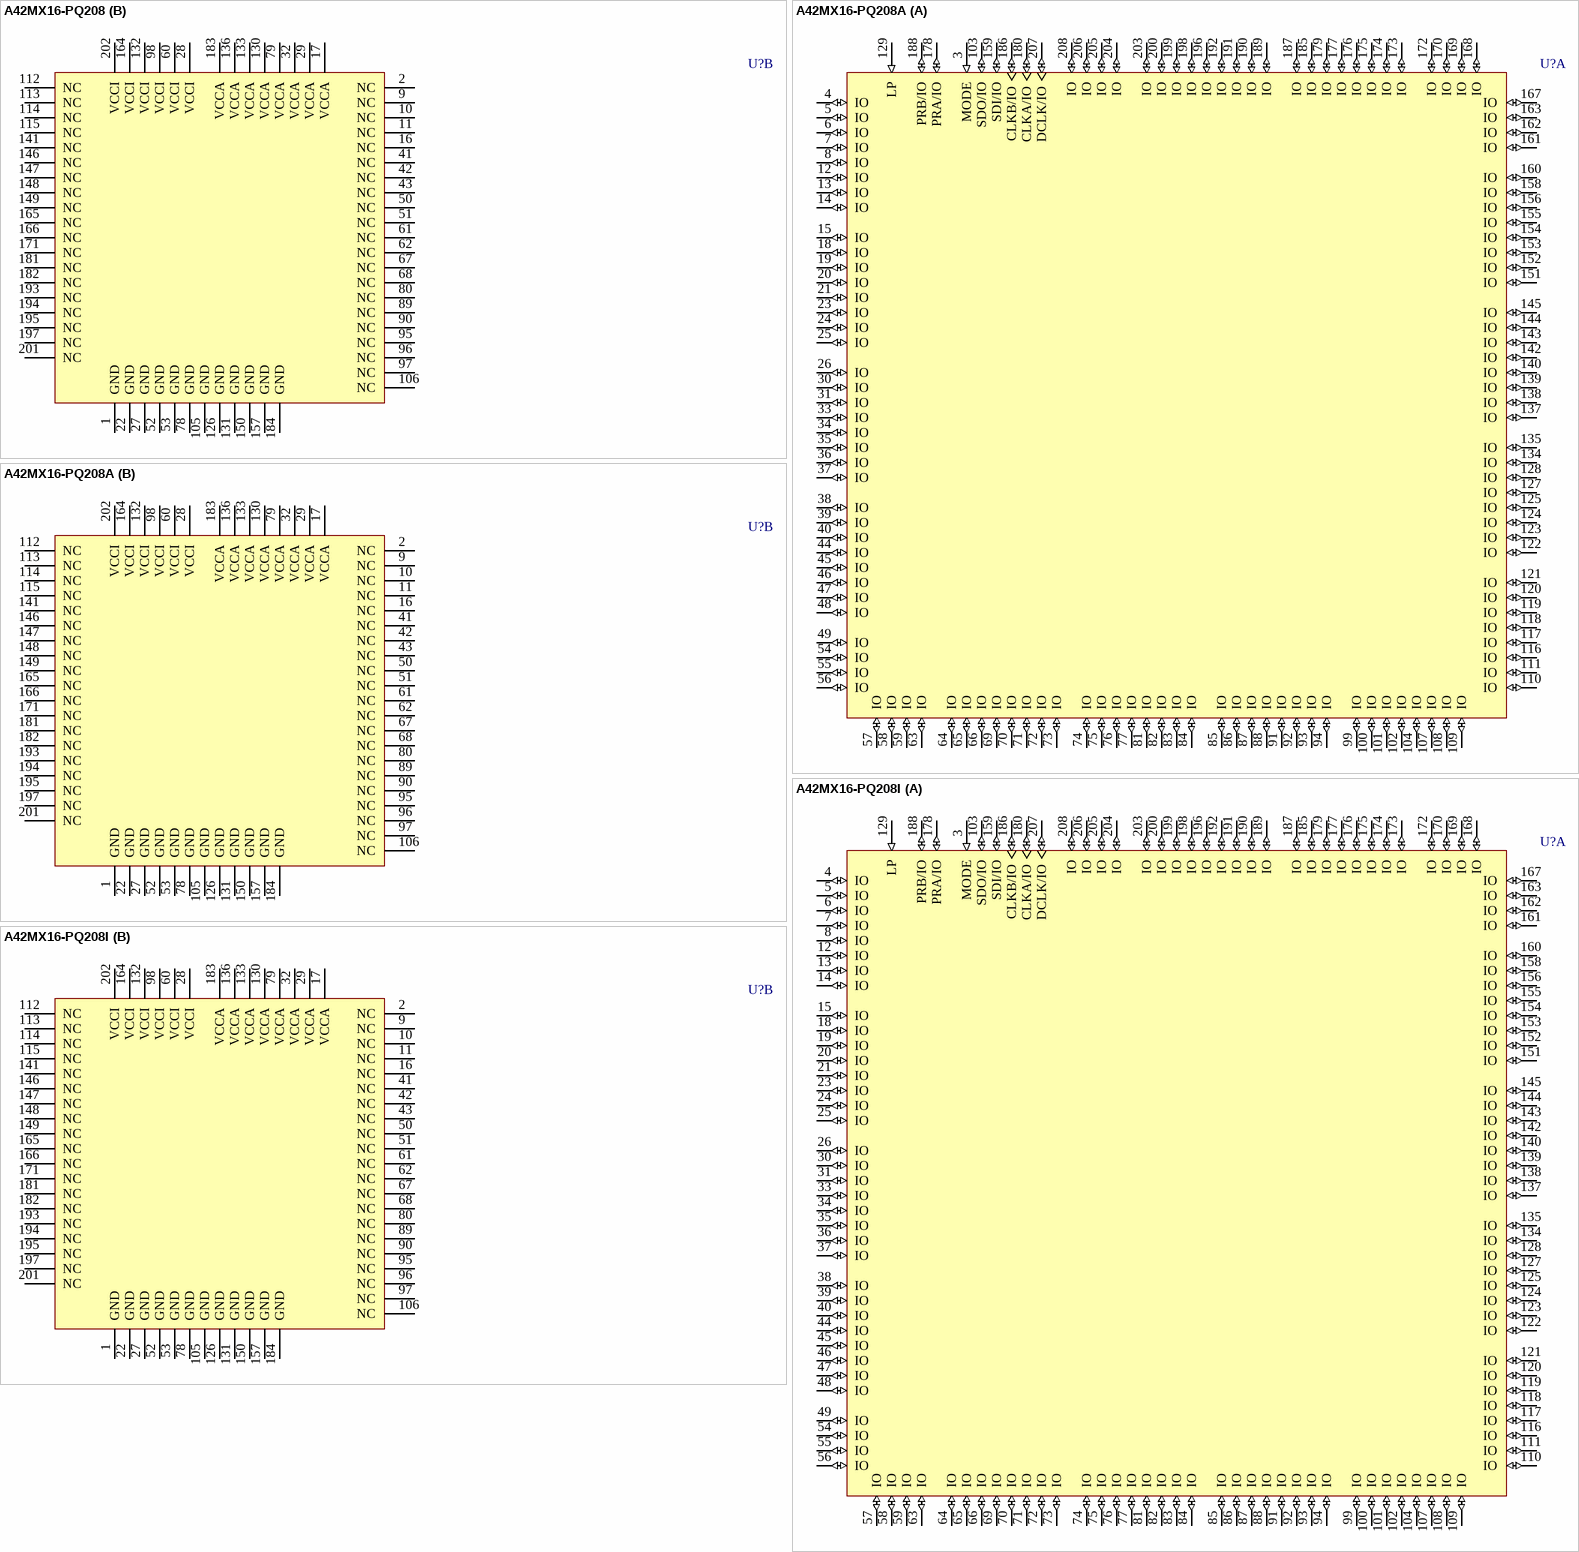
[diagram p56: symbols A42MX16-PQ208 to A42MX16-PQ208I]

## A42MX16-PQ208
designator U?
A42MX16 FPGA, 140 User IOs, 208-Pin PQFP, Speed Grade Standard, Commercial Grade; DatasheetVersion: v6.1, Apr-2009; PackageVersion: ver11.2, Nov-2009; PackageReference: PQ208; PackageDescription: 208-Pin Plastic Quad Flat Pack (PQ208); Code_JEDEC: MS-029-FA-1; ComponentLink1Description: Manufacturer URL; ComponentLink1URL: http://www.actel.com/; ComponentLink2Description: MX Datasheet; ComponentLink2URL: http://www.actel.com/documents/MX_DS.pdf; ComponentLink3Description: Package Mechanical Drawings; ComponentLink3URL: http://www.actel.com/documents/PckgMechDrwngs.pdf; ComponentLink4Description: MX Documents; ComponentLink4URL: http://www.actel.com/products/mx/docs.aspx
footprint PQ208_N (Shrink QFP, 208-Leads, Body 28x28mm, Pitch 0.5mm, IPC Medium Density)
footprint PQ208_L (Shrink QFP, 208-Leads, Body 28x28mm, Pitch 0.5mm, IPC High Density)
footprint PQ208_M (Shrink QFP, 208-Leads, Body 28x28mm, Pitch 0.5mm, IPC Low Density)
part A pins: 3 MODE (in), 4 IO (io), 5 IO (io), 6 IO (io), 7 IO (io), 8 IO (io), 12 IO (io), 13 IO (io), 14 IO (io), 15 IO (io), 18 IO (io), 19 IO (io), 20 IO (io), 21 IO (io), 23 IO (io), 24 IO (io), 25 IO (io), 26 IO (io), 30 IO (io), 31 IO (io), 33 IO (io), 34 IO (io), 35 IO (io), 36 IO (io), 37 IO (io), 38 IO (io), 39 IO (io), 40 IO (io), 44 IO (io), 45 IO (io), 46 IO (io), 47 IO (io), 48 IO (io), 49 IO (io), 54 IO (io), 55 IO (io), 56 IO (io), 57 IO (io), 58 IO (io), 59 IO (io), 63 IO (io), 64 IO (io), 65 IO (io), 66 IO (io), 69 IO (io), 70 IO (io), 71 IO (io), 72 IO (io), 73 IO (io), 74 IO (io), 75 IO (io), 76 IO (io), 77 IO (io), 81 IO (io), 82 IO (io), 83 IO (io), 84 IO (io), 85 IO (io), 86 IO (io), 87 IO (io), 88 IO (io), 91 IO (io), 92 IO (io), 93 IO (io), 94 IO (io), 99 IO (io), 100 IO (io), 101 IO (io), 102 IO (io), 103 SDO/IO (io), 104 IO (io), 107 IO (io), 108 IO (io), 109 IO (io), 110 IO (io), 111 IO (io), 116 IO (io), 117 IO (io), 118 IO (io), 119 IO (io), 120 IO (io), 121 IO (io), 122 IO (io), 123 IO (io), 124 IO (io), 125 IO (io), 127 IO (io), 128 IO (io), 129 LP (in), 134 IO (io), 135 IO (io), 137 IO (io), 138 IO (io), 139 IO (io), 140 IO (io), 142 IO (io), 143 IO (io), 144 IO (io), 145 IO (io), 151 IO (io), 152 IO (io), 153 IO (io), 154 IO (io), 155 IO (io), 156 IO (io), 158 IO (io), 159 SDI/IO (io), 160 IO (io), 161 IO (io), 162 IO (io), 163 IO (io), 167 IO (io), 168 IO (io), 169 IO (io), 170 IO (io), 172 IO (io), 173 IO (io), 174 IO (io), 175 IO (io), 176 IO (io), 177 IO (io), 178 PRA/IO (io), 179 IO (io), 180 CLKA/IO (io), 185 IO (io), 186 CLKB/IO (io), 187 IO (io), 188 PRB/IO (io), 189 IO (io), 190 IO (io), 191 IO (io), 192 IO (io), 196 IO (io), 198 IO (io), 199 IO (io), 200 IO (io), 203 IO (io), 204 IO (io), 205 IO (io), 206 IO (io), 207 DCLK/IO (io), 208 IO (io)
part B pins: 1 GND (power), 2 NC, 9 NC, 10 NC, 11 NC, 16 NC, 17 VCCA (power), 22 GND (power), 27 GND (power), 28 VCCI (power), 29 VCCA (power), 32 VCCA (power), 41 NC, 42 NC, 43 NC, 50 NC, 51 NC, 52 GND (power), 53 GND (power), 60 VCCI (power), 61 NC, 62 NC, 67 NC, 68 NC, 78 GND (power), 79 VCCA (power), 80 NC, 89 NC, 90 NC, 95 NC, 96 NC, 97 NC, 98 VCCI (power), 105 GND (power), 106 NC, 112 NC, 113 NC, 114 NC, 115 NC, 126 GND (power), 130 VCCA (power), 131 GND (power), 132 VCCI (power), 133 VCCA (power), 136 VCCA (power), 141 NC, 146 NC, 147 NC, 148 NC, 149 NC, 150 GND (power), 157 GND (power), 164 VCCI (power), 165 NC, 166 NC, 171 NC, 181 NC, 182 NC, 183 VCCA (power), 184 GND (power), 193 NC, 194 NC, 195 NC, 197 NC, 201 NC, 202 VCCI (power)

## A42MX16-PQ208A
designator U?
A42MX16 FPGA, 140 User IOs, 208-Pin PQFP, Speed Grade Standard, Automotive Grade; DatasheetVersion: v3.1, May-2006; PackageVersion: ver11.2, Nov-2009; PackageReference: PQ208; PackageDescription: 208-Pin Plastic Quad Flat Pack (PQ208); Code_JEDEC: MS-029-FA-1; ComponentLink1Description: Manufacturer URL; ComponentLink1URL: http://www.actel.com/; ComponentLink2Description: MX Automotive Datasheet; ComponentLink2URL: http://www.actel.com/documents/MX_Auto_DS.pdf; ComponentLink3Description: Package Mechanical Drawings; ComponentLink3URL: http://www.actel.com/documents/PckgMechDrwngs.pdf; ComponentLink4Description: MX Documents; ComponentLink4URL: http://www.actel.com/products/mx/docs.aspx
footprint PQ208_N (Shrink QFP, 208-Leads, Body 28x28mm, Pitch 0.5mm, IPC Medium Density)
footprint PQ208_L (Shrink QFP, 208-Leads, Body 28x28mm, Pitch 0.5mm, IPC High Density)
footprint PQ208_M (Shrink QFP, 208-Leads, Body 28x28mm, Pitch 0.5mm, IPC Low Density)
part A pins: 3 MODE (in), 4 IO (io), 5 IO (io), 6 IO (io), 7 IO (io), 8 IO (io), 12 IO (io), 13 IO (io), 14 IO (io), 15 IO (io), 18 IO (io), 19 IO (io), 20 IO (io), 21 IO (io), 23 IO (io), 24 IO (io), 25 IO (io), 26 IO (io), 30 IO (io), 31 IO (io), 33 IO (io), 34 IO (io), 35 IO (io), 36 IO (io), 37 IO (io), 38 IO (io), 39 IO (io), 40 IO (io), 44 IO (io), 45 IO (io), 46 IO (io), 47 IO (io), 48 IO (io), 49 IO (io), 54 IO (io), 55 IO (io), 56 IO (io), 57 IO (io), 58 IO (io), 59 IO (io), 63 IO (io), 64 IO (io), 65 IO (io), 66 IO (io), 69 IO (io), 70 IO (io), 71 IO (io), 72 IO (io), 73 IO (io), 74 IO (io), 75 IO (io), 76 IO (io), 77 IO (io), 81 IO (io), 82 IO (io), 83 IO (io), 84 IO (io), 85 IO (io), 86 IO (io), 87 IO (io), 88 IO (io), 91 IO (io), 92 IO (io), 93 IO (io), 94 IO (io), 99 IO (io), 100 IO (io), 101 IO (io), 102 IO (io), 103 SDO/IO (io), 104 IO (io), 107 IO (io), 108 IO (io), 109 IO (io), 110 IO (io), 111 IO (io), 116 IO (io), 117 IO (io), 118 IO (io), 119 IO (io), 120 IO (io), 121 IO (io), 122 IO (io), 123 IO (io), 124 IO (io), 125 IO (io), 127 IO (io), 128 IO (io), 129 LP (in), 134 IO (io), 135 IO (io), 137 IO (io), 138 IO (io), 139 IO (io), 140 IO (io), 142 IO (io), 143 IO (io), 144 IO (io), 145 IO (io), 151 IO (io), 152 IO (io), 153 IO (io), 154 IO (io), 155 IO (io), 156 IO (io), 158 IO (io), 159 SDI/IO (io), 160 IO (io), 161 IO (io), 162 IO (io), 163 IO (io), 167 IO (io), 168 IO (io), 169 IO (io), 170 IO (io), 172 IO (io), 173 IO (io), 174 IO (io), 175 IO (io), 176 IO (io), 177 IO (io), 178 PRA/IO (io), 179 IO (io), 180 CLKA/IO (io), 185 IO (io), 186 CLKB/IO (io), 187 IO (io), 188 PRB/IO (io), 189 IO (io), 190 IO (io), 191 IO (io), 192 IO (io), 196 IO (io), 198 IO (io), 199 IO (io), 200 IO (io), 203 IO (io), 204 IO (io), 205 IO (io), 206 IO (io), 207 DCLK/IO (io), 208 IO (io)
part B pins: 1 GND (power), 2 NC, 9 NC, 10 NC, 11 NC, 16 NC, 17 VCCA (power), 22 GND (power), 27 GND (power), 28 VCCI (power), 29 VCCA (power), 32 VCCA (power), 41 NC, 42 NC, 43 NC, 50 NC, 51 NC, 52 GND (power), 53 GND (power), 60 VCCI (power), 61 NC, 62 NC, 67 NC, 68 NC, 78 GND (power), 79 VCCA (power), 80 NC, 89 NC, 90 NC, 95 NC, 96 NC, 97 NC, 98 VCCI (power), 105 GND (power), 106 NC, 112 NC, 113 NC, 114 NC, 115 NC, 126 GND (power), 130 VCCA (power), 131 GND (power), 132 VCCI (power), 133 VCCA (power), 136 VCCA (power), 141 NC, 146 NC, 147 NC, 148 NC, 149 NC, 150 GND (power), 157 GND (power), 164 VCCI (power), 165 NC, 166 NC, 171 NC, 181 NC, 182 NC, 183 VCCA (power), 184 GND (power), 193 NC, 194 NC, 195 NC, 197 NC, 201 NC, 202 VCCI (power)

## A42MX16-PQ208I
designator U?
A42MX16 FPGA, 140 User IOs, 208-Pin PQFP, Speed Grade Standard, Industrial Grade; DatasheetVersion: v6.1, Apr-2009; PackageVersion: ver11.2, Nov-2009; PackageReference: PQ208; PackageDescription: 208-Pin Plastic Quad Flat Pack (PQ208); Code_JEDEC: MS-029-FA-1; ComponentLink1Description: Manufacturer URL; ComponentLink1URL: http://www.actel.com/; ComponentLink2Description: MX Datasheet; ComponentLink2URL: http://www.actel.com/documents/MX_DS.pdf; ComponentLink3Description: Package Mechanical Drawings; ComponentLink3URL: http://www.actel.com/documents/PckgMechDrwngs.pdf; ComponentLink4Description: MX Documents; ComponentLink4URL: http://www.actel.com/products/mx/docs.aspx
footprint PQ208_N (Shrink QFP, 208-Leads, Body 28x28mm, Pitch 0.5mm, IPC Medium Density)
footprint PQ208_L (Shrink QFP, 208-Leads, Body 28x28mm, Pitch 0.5mm, IPC High Density)
footprint PQ208_M (Shrink QFP, 208-Leads, Body 28x28mm, Pitch 0.5mm, IPC Low Density)
part A pins: 3 MODE (in), 4 IO (io), 5 IO (io), 6 IO (io), 7 IO (io), 8 IO (io), 12 IO (io), 13 IO (io), 14 IO (io), 15 IO (io), 18 IO (io), 19 IO (io), 20 IO (io), 21 IO (io), 23 IO (io), 24 IO (io), 25 IO (io), 26 IO (io), 30 IO (io), 31 IO (io), 33 IO (io), 34 IO (io), 35 IO (io), 36 IO (io), 37 IO (io), 38 IO (io), 39 IO (io), 40 IO (io), 44 IO (io), 45 IO (io), 46 IO (io), 47 IO (io), 48 IO (io), 49 IO (io), 54 IO (io), 55 IO (io), 56 IO (io), 57 IO (io), 58 IO (io), 59 IO (io), 63 IO (io), 64 IO (io), 65 IO (io), 66 IO (io), 69 IO (io), 70 IO (io), 71 IO (io), 72 IO (io), 73 IO (io), 74 IO (io), 75 IO (io), 76 IO (io), 77 IO (io), 81 IO (io), 82 IO (io), 83 IO (io), 84 IO (io), 85 IO (io), 86 IO (io), 87 IO (io), 88 IO (io), 91 IO (io), 92 IO (io), 93 IO (io), 94 IO (io), 99 IO (io), 100 IO (io), 101 IO (io), 102 IO (io), 103 SDO/IO (io), 104 IO (io), 107 IO (io), 108 IO (io), 109 IO (io), 110 IO (io), 111 IO (io), 116 IO (io), 117 IO (io), 118 IO (io), 119 IO (io), 120 IO (io), 121 IO (io), 122 IO (io), 123 IO (io), 124 IO (io), 125 IO (io), 127 IO (io), 128 IO (io), 129 LP (in), 134 IO (io), 135 IO (io), 137 IO (io), 138 IO (io), 139 IO (io), 140 IO (io), 142 IO (io), 143 IO (io), 144 IO (io), 145 IO (io), 151 IO (io), 152 IO (io), 153 IO (io), 154 IO (io), 155 IO (io), 156 IO (io), 158 IO (io), 159 SDI/IO (io), 160 IO (io), 161 IO (io), 162 IO (io), 163 IO (io), 167 IO (io), 168 IO (io), 169 IO (io), 170 IO (io), 172 IO (io), 173 IO (io), 174 IO (io), 175 IO (io), 176 IO (io), 177 IO (io), 178 PRA/IO (io), 179 IO (io), 180 CLKA/IO (io), 185 IO (io), 186 CLKB/IO (io), 187 IO (io), 188 PRB/IO (io), 189 IO (io), 190 IO (io), 191 IO (io), 192 IO (io), 196 IO (io), 198 IO (io), 199 IO (io), 200 IO (io), 203 IO (io), 204 IO (io), 205 IO (io), 206 IO (io), 207 DCLK/IO (io), 208 IO (io)
part B pins: 1 GND (power), 2 NC, 9 NC, 10 NC, 11 NC, 16 NC, 17 VCCA (power), 22 GND (power), 27 GND (power), 28 VCCI (power), 29 VCCA (power), 32 VCCA (power), 41 NC, 42 NC, 43 NC, 50 NC, 51 NC, 52 GND (power), 53 GND (power), 60 VCCI (power), 61 NC, 62 NC, 67 NC, 68 NC, 78 GND (power), 79 VCCA (power), 80 NC, 89 NC, 90 NC, 95 NC, 96 NC, 97 NC, 98 VCCI (power), 105 GND (power), 106 NC, 112 NC, 113 NC, 114 NC, 115 NC, 126 GND (power), 130 VCCA (power), 131 GND (power), 132 VCCI (power), 133 VCCA (power), 136 VCCA (power), 141 NC, 146 NC, 147 NC, 148 NC, 149 NC, 150 GND (power), 157 GND (power), 164 VCCI (power), 165 NC, 166 NC, 171 NC, 181 NC, 182 NC, 183 VCCA (power), 184 GND (power), 193 NC, 194 NC, 195 NC, 197 NC, 201 NC, 202 VCCI (power)

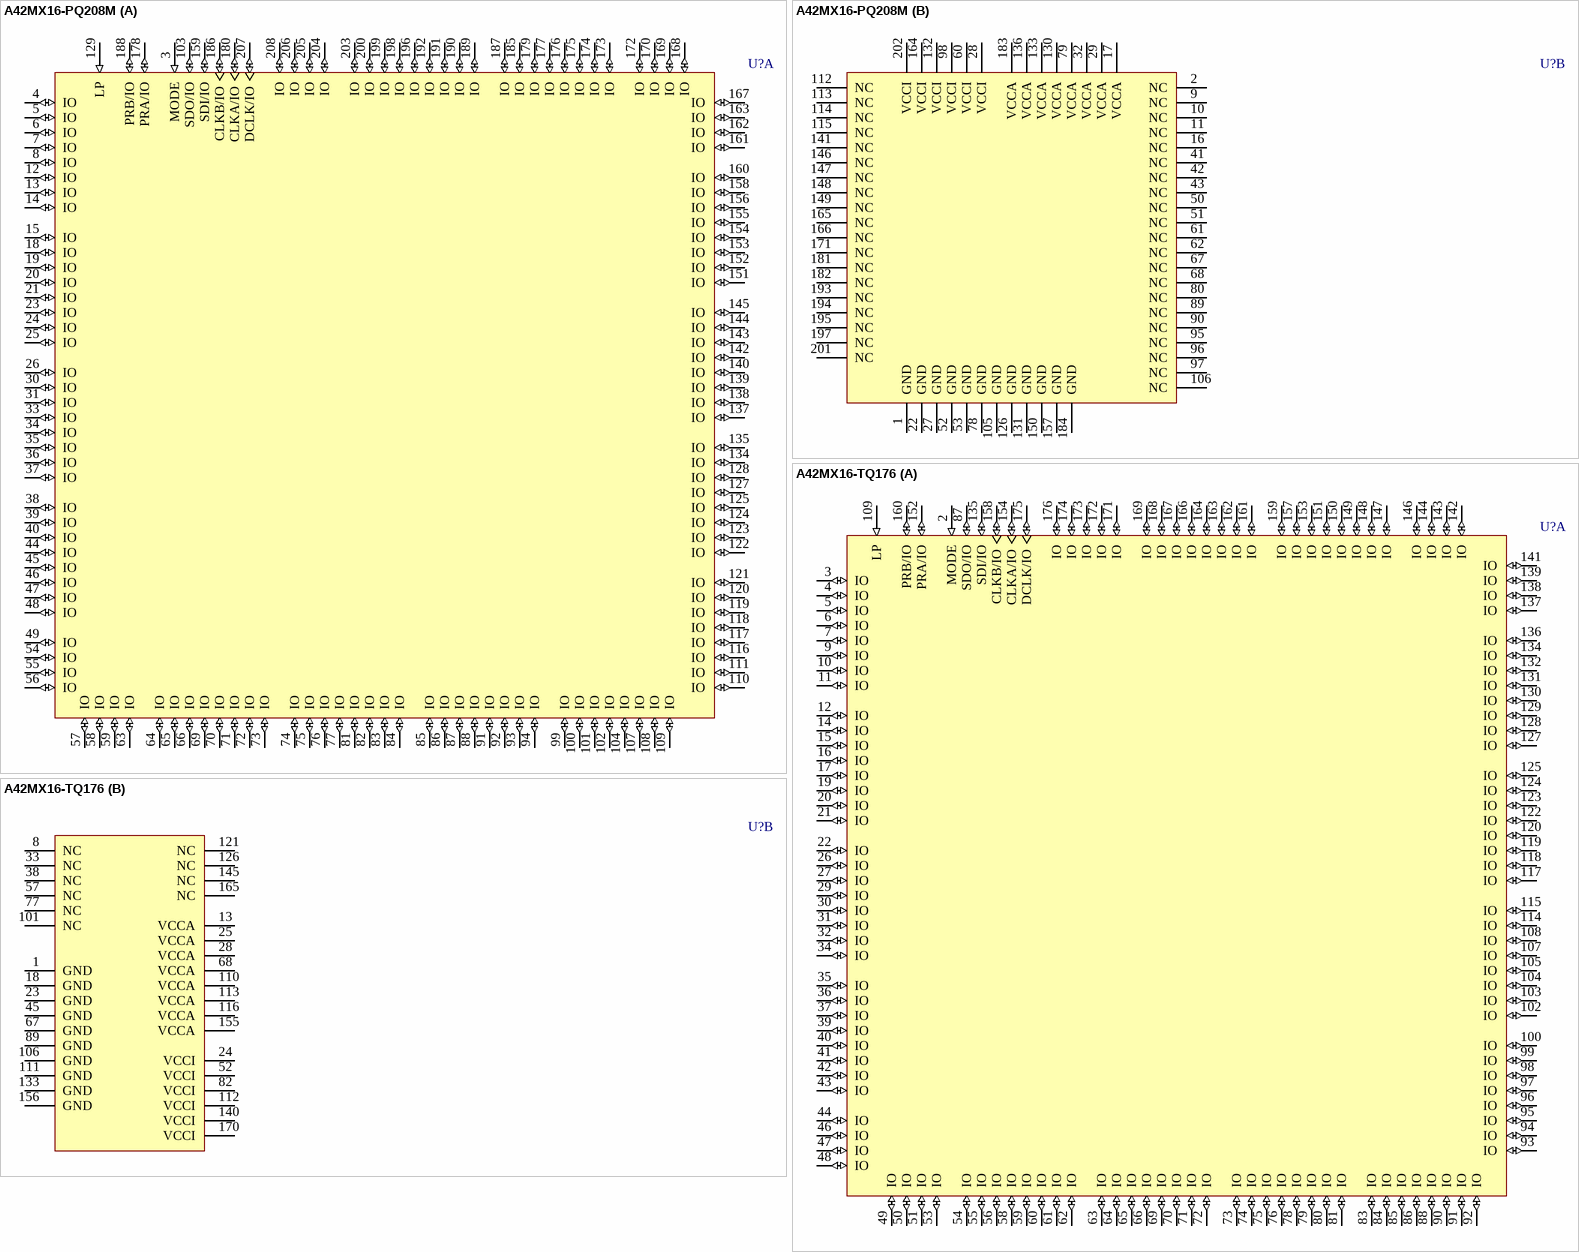
[diagram p57: symbols A42MX16-PQ208M to A42MX16-TQ176]

## A42MX16-PQ208M
designator U?
A42MX16 FPGA, 140 User IOs, 208-Pin PQFP, Speed Grade Standard, Military Grade; DatasheetVersion: v6.1, Apr-2009; PackageVersion: ver11.2, Nov-2009; PackageReference: PQ208; PackageDescription: 208-Pin Plastic Quad Flat Pack (PQ208); Code_JEDEC: MS-029-FA-1; ComponentLink1Description: Manufacturer URL; ComponentLink1URL: http://www.actel.com/; ComponentLink2Description: MX Datasheet; ComponentLink2URL: http://www.actel.com/documents/MX_DS.pdf; ComponentLink3Description: Package Mechanical Drawings; ComponentLink3URL: http://www.actel.com/documents/PckgMechDrwngs.pdf; ComponentLink4Description: MX Documents; ComponentLink4URL: http://www.actel.com/products/mx/docs.aspx
footprint PQ208_N (Shrink QFP, 208-Leads, Body 28x28mm, Pitch 0.5mm, IPC Medium Density)
footprint PQ208_L (Shrink QFP, 208-Leads, Body 28x28mm, Pitch 0.5mm, IPC High Density)
footprint PQ208_M (Shrink QFP, 208-Leads, Body 28x28mm, Pitch 0.5mm, IPC Low Density)
part A pins: 3 MODE (in), 4 IO (io), 5 IO (io), 6 IO (io), 7 IO (io), 8 IO (io), 12 IO (io), 13 IO (io), 14 IO (io), 15 IO (io), 18 IO (io), 19 IO (io), 20 IO (io), 21 IO (io), 23 IO (io), 24 IO (io), 25 IO (io), 26 IO (io), 30 IO (io), 31 IO (io), 33 IO (io), 34 IO (io), 35 IO (io), 36 IO (io), 37 IO (io), 38 IO (io), 39 IO (io), 40 IO (io), 44 IO (io), 45 IO (io), 46 IO (io), 47 IO (io), 48 IO (io), 49 IO (io), 54 IO (io), 55 IO (io), 56 IO (io), 57 IO (io), 58 IO (io), 59 IO (io), 63 IO (io), 64 IO (io), 65 IO (io), 66 IO (io), 69 IO (io), 70 IO (io), 71 IO (io), 72 IO (io), 73 IO (io), 74 IO (io), 75 IO (io), 76 IO (io), 77 IO (io), 81 IO (io), 82 IO (io), 83 IO (io), 84 IO (io), 85 IO (io), 86 IO (io), 87 IO (io), 88 IO (io), 91 IO (io), 92 IO (io), 93 IO (io), 94 IO (io), 99 IO (io), 100 IO (io), 101 IO (io), 102 IO (io), 103 SDO/IO (io), 104 IO (io), 107 IO (io), 108 IO (io), 109 IO (io), 110 IO (io), 111 IO (io), 116 IO (io), 117 IO (io), 118 IO (io), 119 IO (io), 120 IO (io), 121 IO (io), 122 IO (io), 123 IO (io), 124 IO (io), 125 IO (io), 127 IO (io), 128 IO (io), 129 LP (in), 134 IO (io), 135 IO (io), 137 IO (io), 138 IO (io), 139 IO (io), 140 IO (io), 142 IO (io), 143 IO (io), 144 IO (io), 145 IO (io), 151 IO (io), 152 IO (io), 153 IO (io), 154 IO (io), 155 IO (io), 156 IO (io), 158 IO (io), 159 SDI/IO (io), 160 IO (io), 161 IO (io), 162 IO (io), 163 IO (io), 167 IO (io), 168 IO (io), 169 IO (io), 170 IO (io), 172 IO (io), 173 IO (io), 174 IO (io), 175 IO (io), 176 IO (io), 177 IO (io), 178 PRA/IO (io), 179 IO (io), 180 CLKA/IO (io), 185 IO (io), 186 CLKB/IO (io), 187 IO (io), 188 PRB/IO (io), 189 IO (io), 190 IO (io), 191 IO (io), 192 IO (io), 196 IO (io), 198 IO (io), 199 IO (io), 200 IO (io), 203 IO (io), 204 IO (io), 205 IO (io), 206 IO (io), 207 DCLK/IO (io), 208 IO (io)
part B pins: 1 GND (power), 2 NC, 9 NC, 10 NC, 11 NC, 16 NC, 17 VCCA (power), 22 GND (power), 27 GND (power), 28 VCCI (power), 29 VCCA (power), 32 VCCA (power), 41 NC, 42 NC, 43 NC, 50 NC, 51 NC, 52 GND (power), 53 GND (power), 60 VCCI (power), 61 NC, 62 NC, 67 NC, 68 NC, 78 GND (power), 79 VCCA (power), 80 NC, 89 NC, 90 NC, 95 NC, 96 NC, 97 NC, 98 VCCI (power), 105 GND (power), 106 NC, 112 NC, 113 NC, 114 NC, 115 NC, 126 GND (power), 130 VCCA (power), 131 GND (power), 132 VCCI (power), 133 VCCA (power), 136 VCCA (power), 141 NC, 146 NC, 147 NC, 148 NC, 149 NC, 150 GND (power), 157 GND (power), 164 VCCI (power), 165 NC, 166 NC, 171 NC, 181 NC, 182 NC, 183 VCCA (power), 184 GND (power), 193 NC, 194 NC, 195 NC, 197 NC, 201 NC, 202 VCCI (power)

## A42MX16-TQ176
designator U?
A42MX16 FPGA, 140 User IOs, 176-Pin TQFP, Speed Grade Standard, Commercial Grade; DatasheetVersion: v6.1, Apr-2009; PackageVersion: ver11.2, Nov-2009; PackageReference: TQ176; PackageDescription: 176-Pin Plastic Quad Flat Pack (TQ176); Code_JEDEC: MS-026-BCA; ComponentLink1Description: Manufacturer URL; ComponentLink1URL: http://www.actel.com/; ComponentLink2Description: MX Datasheet; ComponentLink2URL: http://www.actel.com/documents/MX_DS.pdf; ComponentLink3Description: Package Mechanical Drawings; ComponentLink3URL: http://www.actel.com/documents/PckgMechDrwngs.pdf; ComponentLink4Description: MX Documents; ComponentLink4URL: http://www.actel.com/products/mx/docs.aspx
footprint TQ176_N (Thin QFP, 176-Leads, Body 24x24mm, Pitch 0.5mm, IPC Medium Density)
footprint TQ176_L (Thin QFP, 176-Leads, Body 24x24mm, Pitch 0.5mm, IPC High Density)
footprint TQ176_M (Thin QFP, 176-Leads, Body 24x24mm, Pitch 0.5mm, IPC Low Density)
part A pins: 2 MODE (in), 3 IO (io), 4 IO (io), 5 IO (io), 6 IO (io), 7 IO (io), 9 IO (io), 10 IO (io), 11 IO (io), 12 IO (io), 14 IO (io), 15 IO (io), 16 IO (io), 17 IO (io), 19 IO (io), 20 IO (io), 21 IO (io), 22 IO (io), 26 IO (io), 27 IO (io), 29 IO (io), 30 IO (io), 31 IO (io), 32 IO (io), 34 IO (io), 35 IO (io), 36 IO (io), 37 IO (io), 39 IO (io), 40 IO (io), 41 IO (io), 42 IO (io), 43 IO (io), 44 IO (io), 46 IO (io), 47 IO (io), 48 IO (io), 49 IO (io), 50 IO (io), 51 IO (io), 53 IO (io), 54 IO (io), 55 IO (io), 56 IO (io), 58 IO (io), 59 IO (io), 60 IO (io), 61 IO (io), 62 IO (io), 63 IO (io), 64 IO (io), 65 IO (io), 66 IO (io), 69 IO (io), 70 IO (io), 71 IO (io), 72 IO (io), 73 IO (io), 74 IO (io), 75 IO (io), 76 IO (io), 78 IO (io), 79 IO (io), 80 IO (io), 81 IO (io), 83 IO (io), 84 IO (io), 85 IO (io), 86 IO (io), 87 SDO/IO (io), 88 IO (io), 90 IO (io), 91 IO (io), 92 IO (io), 93 IO (io), 94 IO (io), 95 IO (io), 96 IO (io), 97 IO (io), 98 IO (io), 99 IO (io), 100 IO (io), 102 IO (io), 103 IO (io), 104 IO (io), 105 IO (io), 107 IO (io), 108 IO (io), 109 LP (in), 114 IO (io), 115 IO (io), 117 IO (io), 118 IO (io), 119 IO (io), 120 IO (io), 122 IO (io), 123 IO (io), 124 IO (io), 125 IO (io), 127 IO (io), 128 IO (io), 129 IO (io), 130 IO (io), 131 IO (io), 132 IO (io), 134 IO (io), 135 SDI/IO (io), 136 IO (io), 137 IO (io), 138 IO (io), 139 IO (io), 141 IO (io), 142 IO (io), 143 IO (io), 144 IO (io), 146 IO (io), 147 IO (io), 148 IO (io), 149 IO (io), 150 IO (io), 151 IO (io), 152 PRA/IO (io), 153 IO (io), 154 CLKA/IO (io), 157 IO (io), 158 CLKB/IO (io), 159 IO (io), 160 PRB/IO (io), 161 IO (io), 162 IO (io), 163 IO (io), 164 IO (io), 166 IO (io), 167 IO (io), 168 IO (io), 169 IO (io), 171 IO (io), 172 IO (io), 173 IO (io), 174 IO (io), 175 DCLK/IO (io), 176 IO (io)
part B pins: 1 GND (power), 8 NC, 13 VCCA (power), 18 GND (power), 23 GND (power), 24 VCCI (power), 25 VCCA (power), 28 VCCA (power), 33 NC, 38 NC, 45 GND (power), 52 VCCI (power), 57 NC, 67 GND (power), 68 VCCA (power), 77 NC, 82 VCCI (power), 89 GND (power), 101 NC, 106 GND (power), 110 VCCA (power), 111 GND (power), 112 VCCI (power), 113 VCCA (power), 116 VCCA (power), 121 NC, 126 NC, 133 GND (power), 140 VCCI (power), 145 NC, 155 VCCA (power), 156 GND (power), 165 NC, 170 VCCI (power)

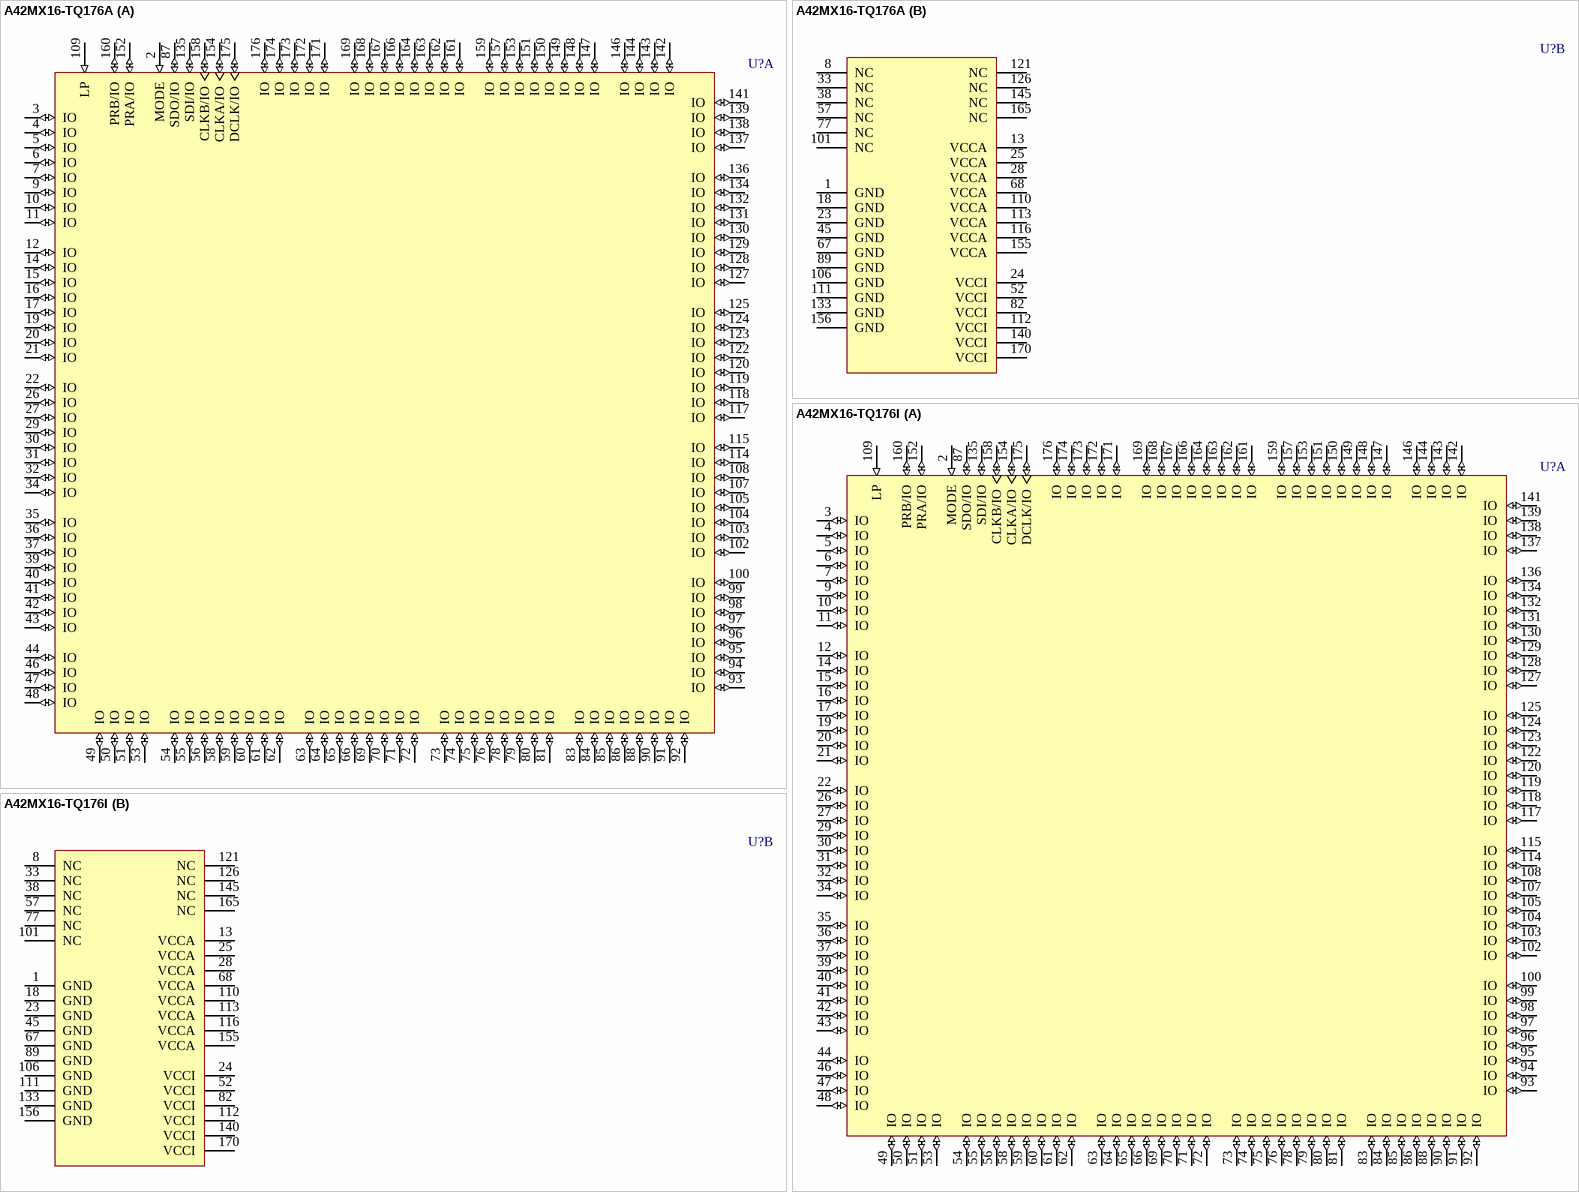
[diagram p58: symbols A42MX16-TQ176A to A42MX16-TQ176I]

## A42MX16-TQ176A
designator U?
A42MX16 FPGA, 140 User IOs, 176-Pin TQFP, Speed Grade Standard, Automotive Grade; DatasheetVersion: v3.1, May-2006; PackageVersion: ver11.2, Nov-2009; PackageReference: TQ176; PackageDescription: 176-Pin Plastic Quad Flat Pack (TQ176); Code_JEDEC: MS-026-BCA; ComponentLink1Description: Manufacturer URL; ComponentLink1URL: http://www.actel.com/; ComponentLink2Description: MX Automotive Datasheet; ComponentLink2URL: http://www.actel.com/documents/MX_Auto_DS.pdf; ComponentLink3Description: Package Mechanical Drawings; ComponentLink3URL: http://www.actel.com/documents/PckgMechDrwngs.pdf; ComponentLink4Description: MX Documents; ComponentLink4URL: http://www.actel.com/products/mx/docs.aspx
footprint TQ176_N (Thin QFP, 176-Leads, Body 24x24mm, Pitch 0.5mm, IPC Medium Density)
footprint TQ176_L (Thin QFP, 176-Leads, Body 24x24mm, Pitch 0.5mm, IPC High Density)
footprint TQ176_M (Thin QFP, 176-Leads, Body 24x24mm, Pitch 0.5mm, IPC Low Density)
part A pins: 2 MODE (in), 3 IO (io), 4 IO (io), 5 IO (io), 6 IO (io), 7 IO (io), 9 IO (io), 10 IO (io), 11 IO (io), 12 IO (io), 14 IO (io), 15 IO (io), 16 IO (io), 17 IO (io), 19 IO (io), 20 IO (io), 21 IO (io), 22 IO (io), 26 IO (io), 27 IO (io), 29 IO (io), 30 IO (io), 31 IO (io), 32 IO (io), 34 IO (io), 35 IO (io), 36 IO (io), 37 IO (io), 39 IO (io), 40 IO (io), 41 IO (io), 42 IO (io), 43 IO (io), 44 IO (io), 46 IO (io), 47 IO (io), 48 IO (io), 49 IO (io), 50 IO (io), 51 IO (io), 53 IO (io), 54 IO (io), 55 IO (io), 56 IO (io), 58 IO (io), 59 IO (io), 60 IO (io), 61 IO (io), 62 IO (io), 63 IO (io), 64 IO (io), 65 IO (io), 66 IO (io), 69 IO (io), 70 IO (io), 71 IO (io), 72 IO (io), 73 IO (io), 74 IO (io), 75 IO (io), 76 IO (io), 78 IO (io), 79 IO (io), 80 IO (io), 81 IO (io), 83 IO (io), 84 IO (io), 85 IO (io), 86 IO (io), 87 SDO/IO (io), 88 IO (io), 90 IO (io), 91 IO (io), 92 IO (io), 93 IO (io), 94 IO (io), 95 IO (io), 96 IO (io), 97 IO (io), 98 IO (io), 99 IO (io), 100 IO (io), 102 IO (io), 103 IO (io), 104 IO (io), 105 IO (io), 107 IO (io), 108 IO (io), 109 LP (in), 114 IO (io), 115 IO (io), 117 IO (io), 118 IO (io), 119 IO (io), 120 IO (io), 122 IO (io), 123 IO (io), 124 IO (io), 125 IO (io), 127 IO (io), 128 IO (io), 129 IO (io), 130 IO (io), 131 IO (io), 132 IO (io), 134 IO (io), 135 SDI/IO (io), 136 IO (io), 137 IO (io), 138 IO (io), 139 IO (io), 141 IO (io), 142 IO (io), 143 IO (io), 144 IO (io), 146 IO (io), 147 IO (io), 148 IO (io), 149 IO (io), 150 IO (io), 151 IO (io), 152 PRA/IO (io), 153 IO (io), 154 CLKA/IO (io), 157 IO (io), 158 CLKB/IO (io), 159 IO (io), 160 PRB/IO (io), 161 IO (io), 162 IO (io), 163 IO (io), 164 IO (io), 166 IO (io), 167 IO (io), 168 IO (io), 169 IO (io), 171 IO (io), 172 IO (io), 173 IO (io), 174 IO (io), 175 DCLK/IO (io), 176 IO (io)
part B pins: 1 GND (power), 8 NC, 13 VCCA (power), 18 GND (power), 23 GND (power), 24 VCCI (power), 25 VCCA (power), 28 VCCA (power), 33 NC, 38 NC, 45 GND (power), 52 VCCI (power), 57 NC, 67 GND (power), 68 VCCA (power), 77 NC, 82 VCCI (power), 89 GND (power), 101 NC, 106 GND (power), 110 VCCA (power), 111 GND (power), 112 VCCI (power), 113 VCCA (power), 116 VCCA (power), 121 NC, 126 NC, 133 GND (power), 140 VCCI (power), 145 NC, 155 VCCA (power), 156 GND (power), 165 NC, 170 VCCI (power)